# Altium schematic symbol library MonoLine.SCHLIB: 210 symbols (part 2 of 2)
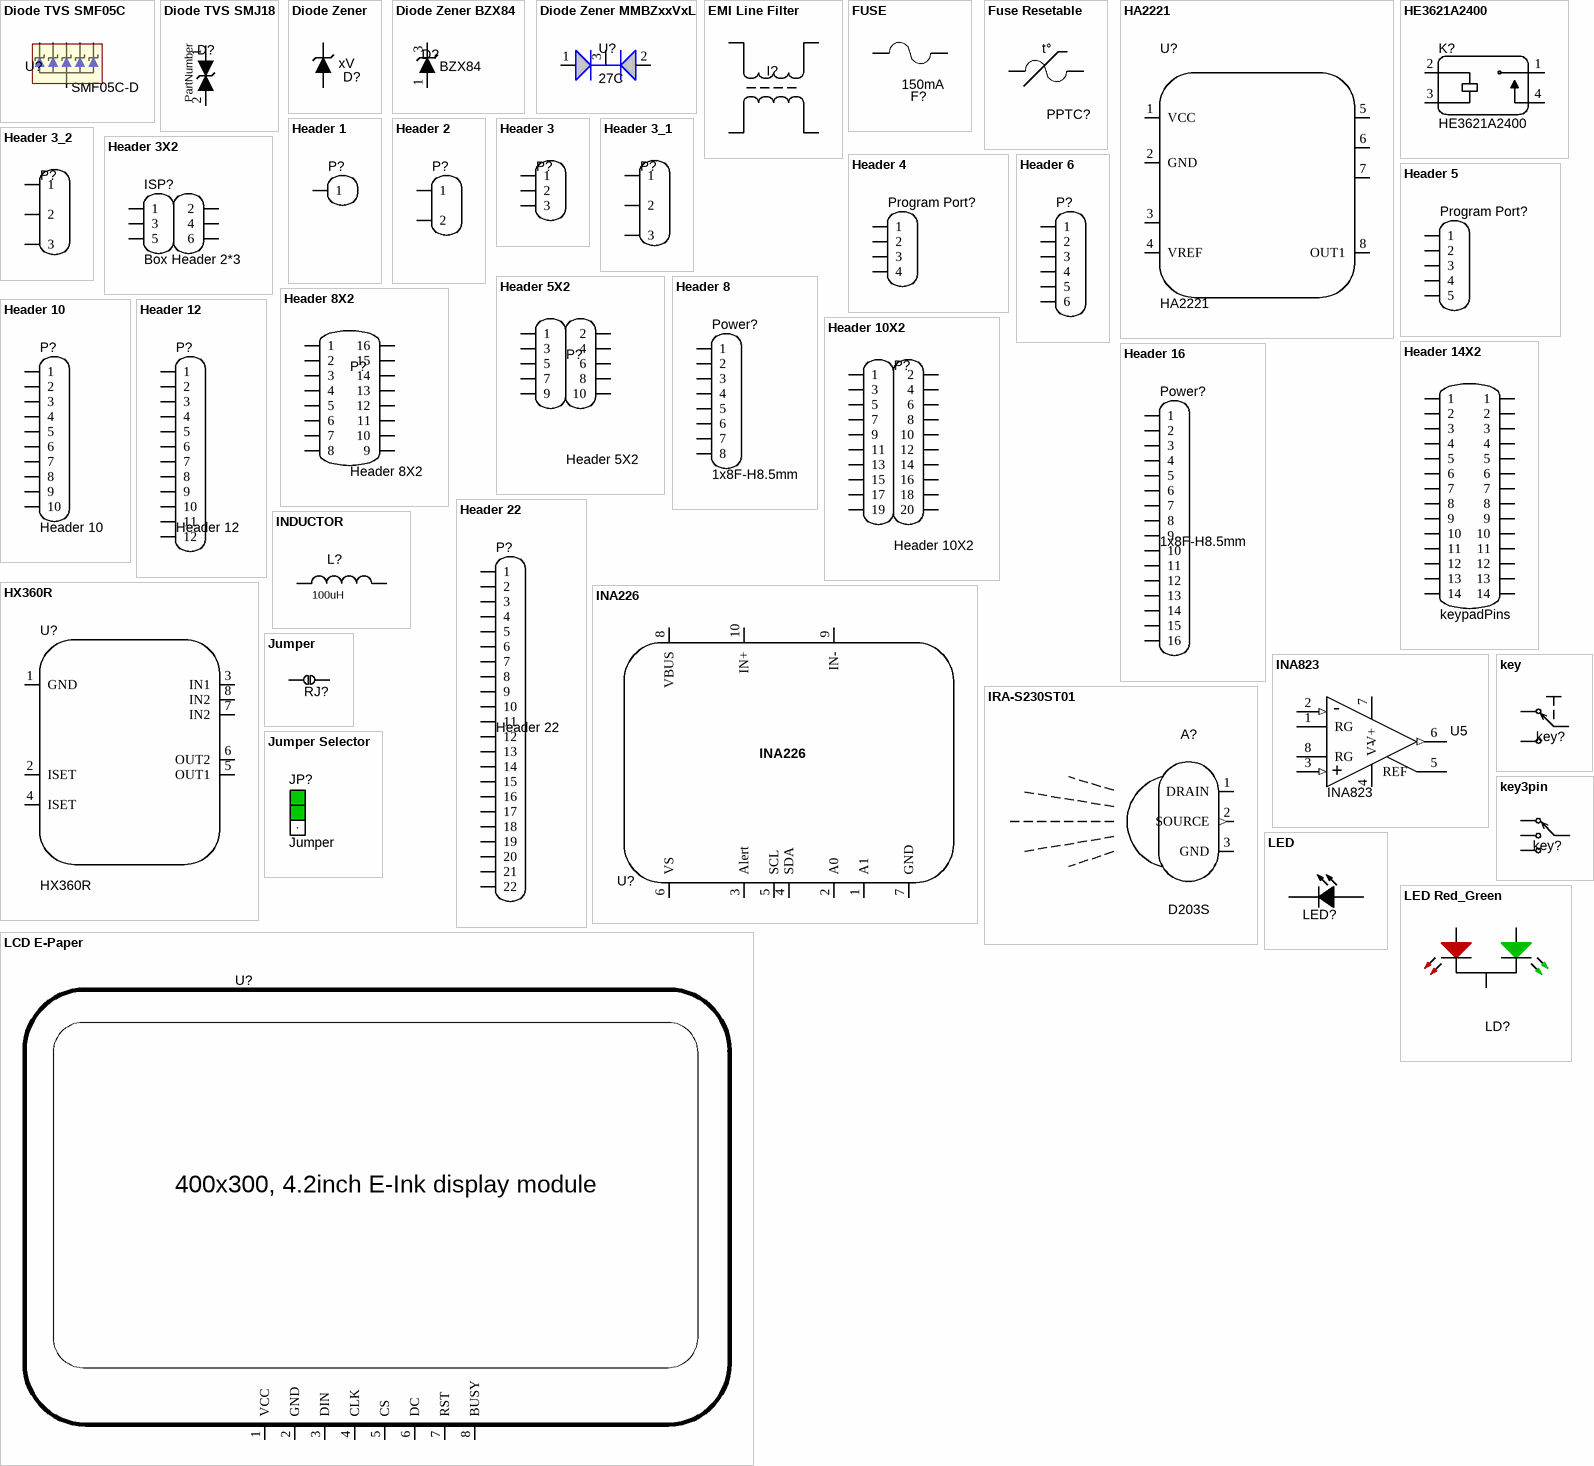
[diagram p11: symbols Diode TVS SMF05C to LED Red_Green]

## LED Red_Green
designator LD?, comment LED  (value not drawn)
Typical INFRARED GaAs LED; Published: 8-Jun-2000; LatestRevisionDate: 08-Jul-2005; LatestRevisionNote: Mech Layer 1 removed.; Publisher: Altium Limited
footprint My_DUOLED5MM
pins: AG, AR, K

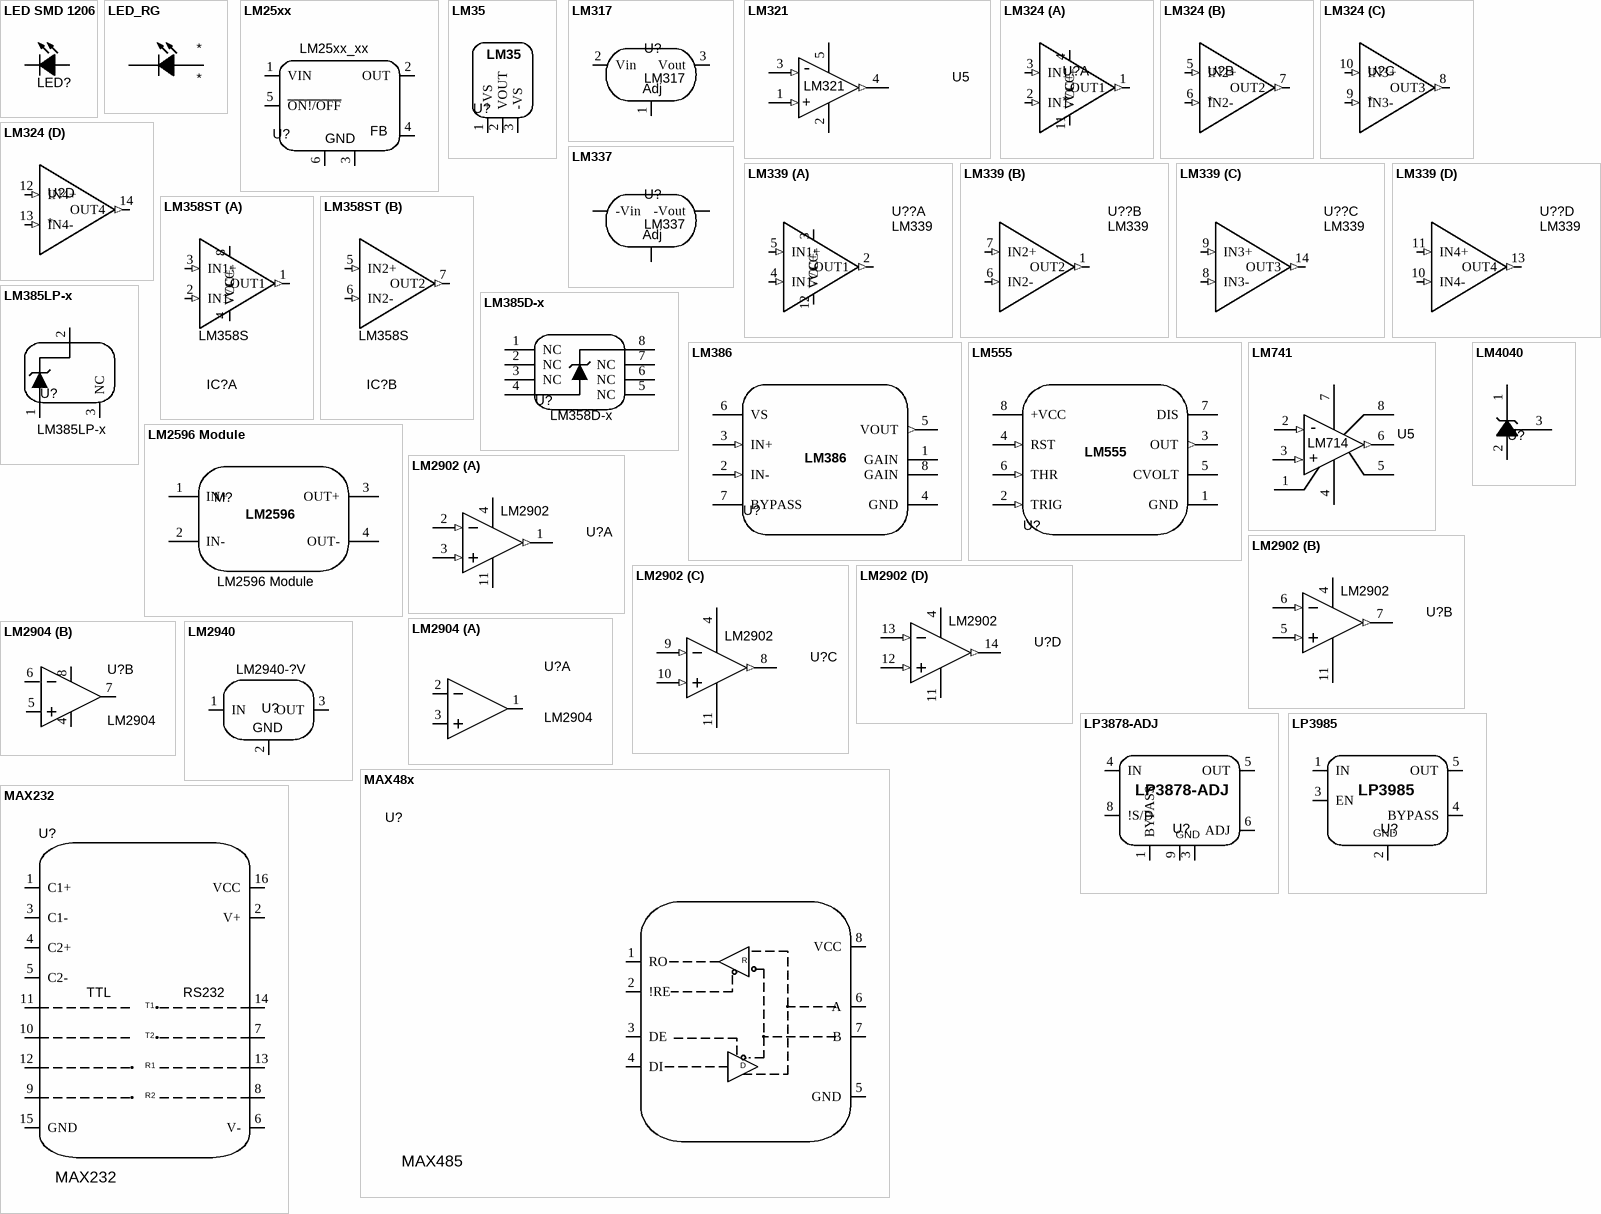
[diagram p4: symbols LED SMD 1206 to MAX232]

## LED SMD 1206
designator LED?, comment SMD 1206 LED  (value not drawn)
footprint LED 1206
pins: 1, 2

## LED_RG
designator *
pins: 1, 2

## LM25xx
designator U?, comment LM25xx_xx
Voltage Regulator; Temperature Range: -x°C to x°C; PartNumber: LM25xx_xx
footprint TO-220_5 (TO-220 STRAIGHT, T05A pitch: 1.7mm-Designer Abbas Basereh)
footprint D2Pak5 (D2PAK5-(TO263-5))
pins: 1 VIN, 2 OUT, 3 GND, 4 FB, 5 ~{ON!/OFF}, 6 Tab/GND

## LM35
designator U?  (value not drawn)
Temperature Sensor; Temperature Range: -x°C to x°C; PartNumber: LM35
footprint TO-92
footprint TO-92 BENT (DESIGNER :ABBAS BASEREH)
footprint TO-92 CF (DESIGNER :ABBAS BASEREH)
footprint TO-92 STR (DESIGNER :ABBAS BASEREH)
pins: 1 +VS, 2 VOUT, 3 -VS

## LM317
designator U?
Adjustable Output, Positive / 1.5 A / Output Adjustable between 1.2 V and 37 V
pins: 1 Adj, 2 Vin, 3 Vout

## LM321
designator U5  (value not drawn)
General-Purpose Single Operational Amplifier; Temperature Range: -x°C to x°C; PartNumber: LM321
footprint SOT23-5
pins: 1 IN- (in), 2 V- (power), 3 IN+ (in), 4 OUT (out), 5 V+ (power)
text: -; +

## LM324
designator U?
these devices consist of four independent high-gain frequency-compensated operational amplifiers that are designed sp...; MP: altium_native_batch; Package: None; Price: None; Availability: Unavailable; Value: *
footprint SOIC127P600X175-14N
part A pins: 1 OUT1 (out), 2 IN1- (in), 3 IN1+ (in), 4 VCC+ (power), 11 VCC- (power)
part B pins: 5 IN2+ (in), 6 IN2- (in), 7 OUT2 (out)
part C pins: 8 OUT3 (out), 9 IN3- (in), 10 IN3+ (in)
part D pins: 12 IN4+ (in), 13 IN4- (in), 14 OUT4 (out)

## LM337
designator U?
Adjustable Output, Negative / 1.5 A / Output Adjustable between -1.2 V and- 37 V
pins: 1 Adj, 2 -Vout, 3 -Vin

## LM339
designator U??
footprint Model Name (Footprint not found)
footprint SO14
part A pins: 2 OUT1 (out), 3 VCC+ (power), 4 IN1- (in), 5 IN1+ (in), 12 VCC- (power)
part B pins: 1 OUT2 (out), 6 IN2- (in), 7 IN2+ (in)
part C pins: 8 IN3- (in), 9 IN3+ (in), 14 OUT3 (out)
part D pins: 10 IN4- (in), 11 IN4+ (in), 13 OUT4 (out)

## LM358ST
designator IC?, comment LM358S
General Purpose Amplifier 2 Circuit 8-MiniSO; MF: STMicroelectronics; MP: LM358ST; Mouser-Purchase-URL: https://snapeda.com/shop?store=Mouser&id=225512; Arrow_Electronics-Purchase-URL: https://snapeda.com/shop?store=Arrow+Electronics&id=225512; SnapEDA_Link: https://www.snapeda.com/parts/LM358ST/STMicroelectronics/view-part/225512/?ref=snap; Package: MSOP-8 STMicroelectronics; DigiKey-Purchase-URL: https://snapeda.com/shop?store=DigiKey&id=225512; Price: None; Availability: Good; Value: *
footprint SOIC127P600X175-8N (Footprint not found)
part A pins: 1 OUT1 (out), 2 IN1- (in), 3 IN1+ (in), 4 VCC- (power), 8 VCC+ (power)
part B pins: 5 IN2+ (in), 6 IN2- (in), 7 OUT2 (out)

## LM385D-x
designator U?, comment LM358D-x
Micropower Voltage Reference; Temperature Range: -x°C to x°C; PartNumber: LM358D-x
footprint SOIC 8-3.9mm (SOIC, 8-Leads, Body 4.9x3.9mm, Pitch 1.27mm, IPC Medium Density)
pins: 1 NC, 2 NC, 3 NC, 4 A, 5 NC, 6 NC, 7 NC, 8 K

## LM385LP-x
designator U?
Micropower Voltage Reference; Temperature Range: -x°C to x°C; PartNumber: LM385LP-x
footprint TO-92
footprint TO-92 BENT (DESIGNER :ABBAS BASEREH)
footprint TO-92 CF (DESIGNER :ABBAS BASEREH)
footprint TO-92 STR (DESIGNER :ABBAS BASEREH)
footprint SOT23_N (SOT23, 3-Leads, Body 2.9x1.3mm, Pitch 0.95mm, Lead Span 2.3mm - Reverse Pinning, IPC Medium Density); pin to pad 1>2 3>1
pins: 1 A, 2 K, 3 NC

## LM386
designator U?  (value not drawn)
Low Voltage Audio Power Amplifier; Temperature Range: -x°C to x°C; PartNumber: LM386
footprint DIP 8-N (DIP; 8 Leads; Row Spacing 7.62 mm; Pitch 2.54 mm)
footprint SOIC 8-3.9mm (SOIC, 8-Leads, Body 4.9x3.9mm, Pitch 1.27mm, IPC Medium Density)
pins: 1 GAIN, 2 IN- (in), 3 IN+ (in), 4 GND (power), 5 VOUT (out), 6 VS (power), 7 BYPASS, 8 GAIN

## LM555
designator U?, comment LM555CM  (value not drawn)
Timer, 8-pin Narrow SOIC; Temperature Range: -x°C to x°C; PartNumber: LM555CM
footprint DIP 8-N (DIP; 8 Leads; Row Spacing 7.62 mm; Pitch 2.54 mm)
footprint SOIC 8-3.9mm (SOIC, 8-Leads, Body 4.9x3.9mm, Pitch 1.27mm, IPC Medium Density)
pins: 1 GND (power), 2 TRIG (in), 3 OUT (out), 4 RST (in), 5 CVOLT, 6 THR (in), 7 DIS (oc), 8 +VCC (power)

## LM741
designator U5  (value not drawn)
General-Purpose Single Operational Amplifier; Temperature Range: -x°C to x°C; PartNumber: LM741
footprint DIP 8-N (DIP; 8 Leads; Row Spacing 7.62 mm; Pitch 2.54 mm)
footprint SOIC 8-3.9mm (SOIC, 8-Leads, Body 4.9x3.9mm, Pitch 1.27mm, IPC Medium Density)
pins: 1 OS NULL, 2 IN+ (in), 3 IN- (in), 4 V- (power), 5 OS NULL, 6 OUT (out), 7 V+ (power), 8 NC
text: -; LM714; +

## LM2596 Module
designator M?  =PartNumber: LM2596 Module
footprint LM2596 DC TO DC Module SMD
pins: 1 IN+, 2 IN-, 3 OUT+, 4 OUT-
text: LM2596

## LM2902
designator U?
Quadruple Operational Amplifiers; Temperature Range: -x°C to x°C; PartNumber: LM2902
footprint DIP 14-N (DIP; 14 Leads; Row Spacing 7.62 mm; Pitch 2.54 mm)
footprint SOIC 14-3.9mm (SOIC, 14-Leads, Body 8.7x3.9mm, Pitch 1.27mm, IPC Medium Density)
part A pins: 1 OUT (out), 2 IN+ (in), 3 IN- (in), 4 V+ (power), 11 V- (power)
part B pins: 4 V+ (power), 5 IN- (in), 6 IN+ (in), 7 OUT (out), 11 V- (power)
part C pins: 4 V+ (power), 8 OUT (out), 9 IN+ (in), 10 IN- (in), 11 V- (power)
part D pins: 4 V+ (power), 11 V- (power), 12 IN- (in), 13 IN+ (in), 14 OUT (out)

## LM2904
designator U?
Low-power dual operational amplifier; SMD Code: LM2904DT; Specification: LM2904 Low-power dual operational amplifier; Warehouse Number: 11000640; Temperature Range: -40°C to 125°C; Package: SOIC 8-3.9mm; PartNumber: LM2904
footprint DIP 8-N (DIP; 8 Leads; Row Spacing 7.62 mm; Pitch 2.54 mm)
footprint SOIC 8-3.9mm (SOIC, 8-Leads, Body 4.9x3.9mm, Pitch 1.27mm, IPC Medium Density)
part A pins: 1 OUT, 2 IN+, 3 IN-
part B pins: 4 V- (power), 5 IN-, 6 IN+, 7 OUT, 8 V+ (power)

## LM2940
designator U?, comment LM2940-?V
The LM2940-N and LM2940C positive voltage The LM2940-N and LM2940C positive voltage The LM2940-N and LM2940C positive voltage maximum of 1 V over the entire temperature range.; Temperature Range: -x°C to x°C; PartNumber: LM2940-?V
footprint SOT223_4 (SOT223, 4-Leads, Body 6.5x3.5mm, Pitch 2.30mm-Designer Abbas Basereh)
pins: 1 IN, 2 GND, 3 OUT

## LM4040
designator U?
Fixed Output Voltages of 2.048 V, 2.5 V, 3 V,4.096 V, 5 V, 8.192 V, and 10 V; Temperature Range: -x°C to x°C
footprint SOT23_N (SOT23, 3-Leads, Body 2.9x1.3mm, Pitch 0.95mm, Lead Span 2.3mm - Reverse Pinning, IPC Medium Density)
pins: 1 K, 2 A, 3 A

## LP3878-ADJ
designator U?
LP3878-ADJ Micropower 800-mA Low-Noise "Ceramic Stable" Adjustable Voltage / Regulator for 1-V to 5-V Applications
footprint SO_8T (SOP-8, 5x3.9mm body 1.27mm pitch, DDA, SO PowerPAD)
pins: 1 BYPASS, 3 GND, 4 IN, 5 OUT, 6 ADJ, 8 !S/D, 9 TherminalPAD-GND

## LP3985
designator U?
LP3985 Micropower, 150-mA Low-Noise Ultra-Low-Dropout CMOS Voltage Regulator
footprint SOT23-5
pins: 1 IN, 3 EN, 4 BYPASS, 5 OUT,  2 GND

## MAX48x
designator U?, comment MAX485
RS-485/RS-422 Transceivers; ComponentAuthor: M khosravi; ComponentLink1Description: Datasheet; ComponentLink1URL: http://pdfserv.maxim-ic.com/en/ds/MAX220-MAX249.pdf
footprint DIP16
footprint SO16 (SOIC, 16-Leads, Body 9.9x3.9mm, Pitch 1.27mm, IPC Medium Density)
footprint NSO16_L (SOIC, 16-Leads, Body 9.9x3.9mm, Pitch 1.27mm, IPC High Density)
footprint NSO16_M (SOIC, 16-Leads, Body 9.9x3.9mm, Pitch 1.27mm, IPC Low Density)
footprint NSO16_N (SOIC, 16-Leads, Body 9.9x3.9mm, Pitch 1.27mm, IPC Medium Density)
pins: 1 RO, 2 !RE, 3 DE, 4 DI, 5 GND (power), 6 A, 7 B, 8 VCC (power)
text: R; D

## MAX232
designator U?
+5V Powered, Multi-Channel RS-232 Driver/Receiver; ComponentAuthor: M khosravi; ComponentLink1Description: Datasheet; ComponentLink1URL: http://pdfserv.maxim-ic.com/en/ds/MAX220-MAX249.pdf
footprint DIP16
footprint SO16 (SOIC, 16-Leads, Body 9.9x3.9mm, Pitch 1.27mm, IPC Medium Density)
footprint NSO16_L (SOIC, 16-Leads, Body 9.9x3.9mm, Pitch 1.27mm, IPC High Density)
footprint NSO16_M (SOIC, 16-Leads, Body 9.9x3.9mm, Pitch 1.27mm, IPC Low Density)
footprint NSO16_N (SOIC, 16-Leads, Body 9.9x3.9mm, Pitch 1.27mm, IPC Medium Density)
pins: 1 C1+, 2 V+, 3 C1-, 4 C2+, 5 C2-, 6 V-, 7 T2OUT, 8 R2IN, 9 R2OUT, 10 T2IN, 11 T1IN, 12 R1OUT, 13 R1IN, 14 T1OUT, 15 GND (power), 16 VCC (power)
text: TTL; RS232; T1; T2; R1; R2

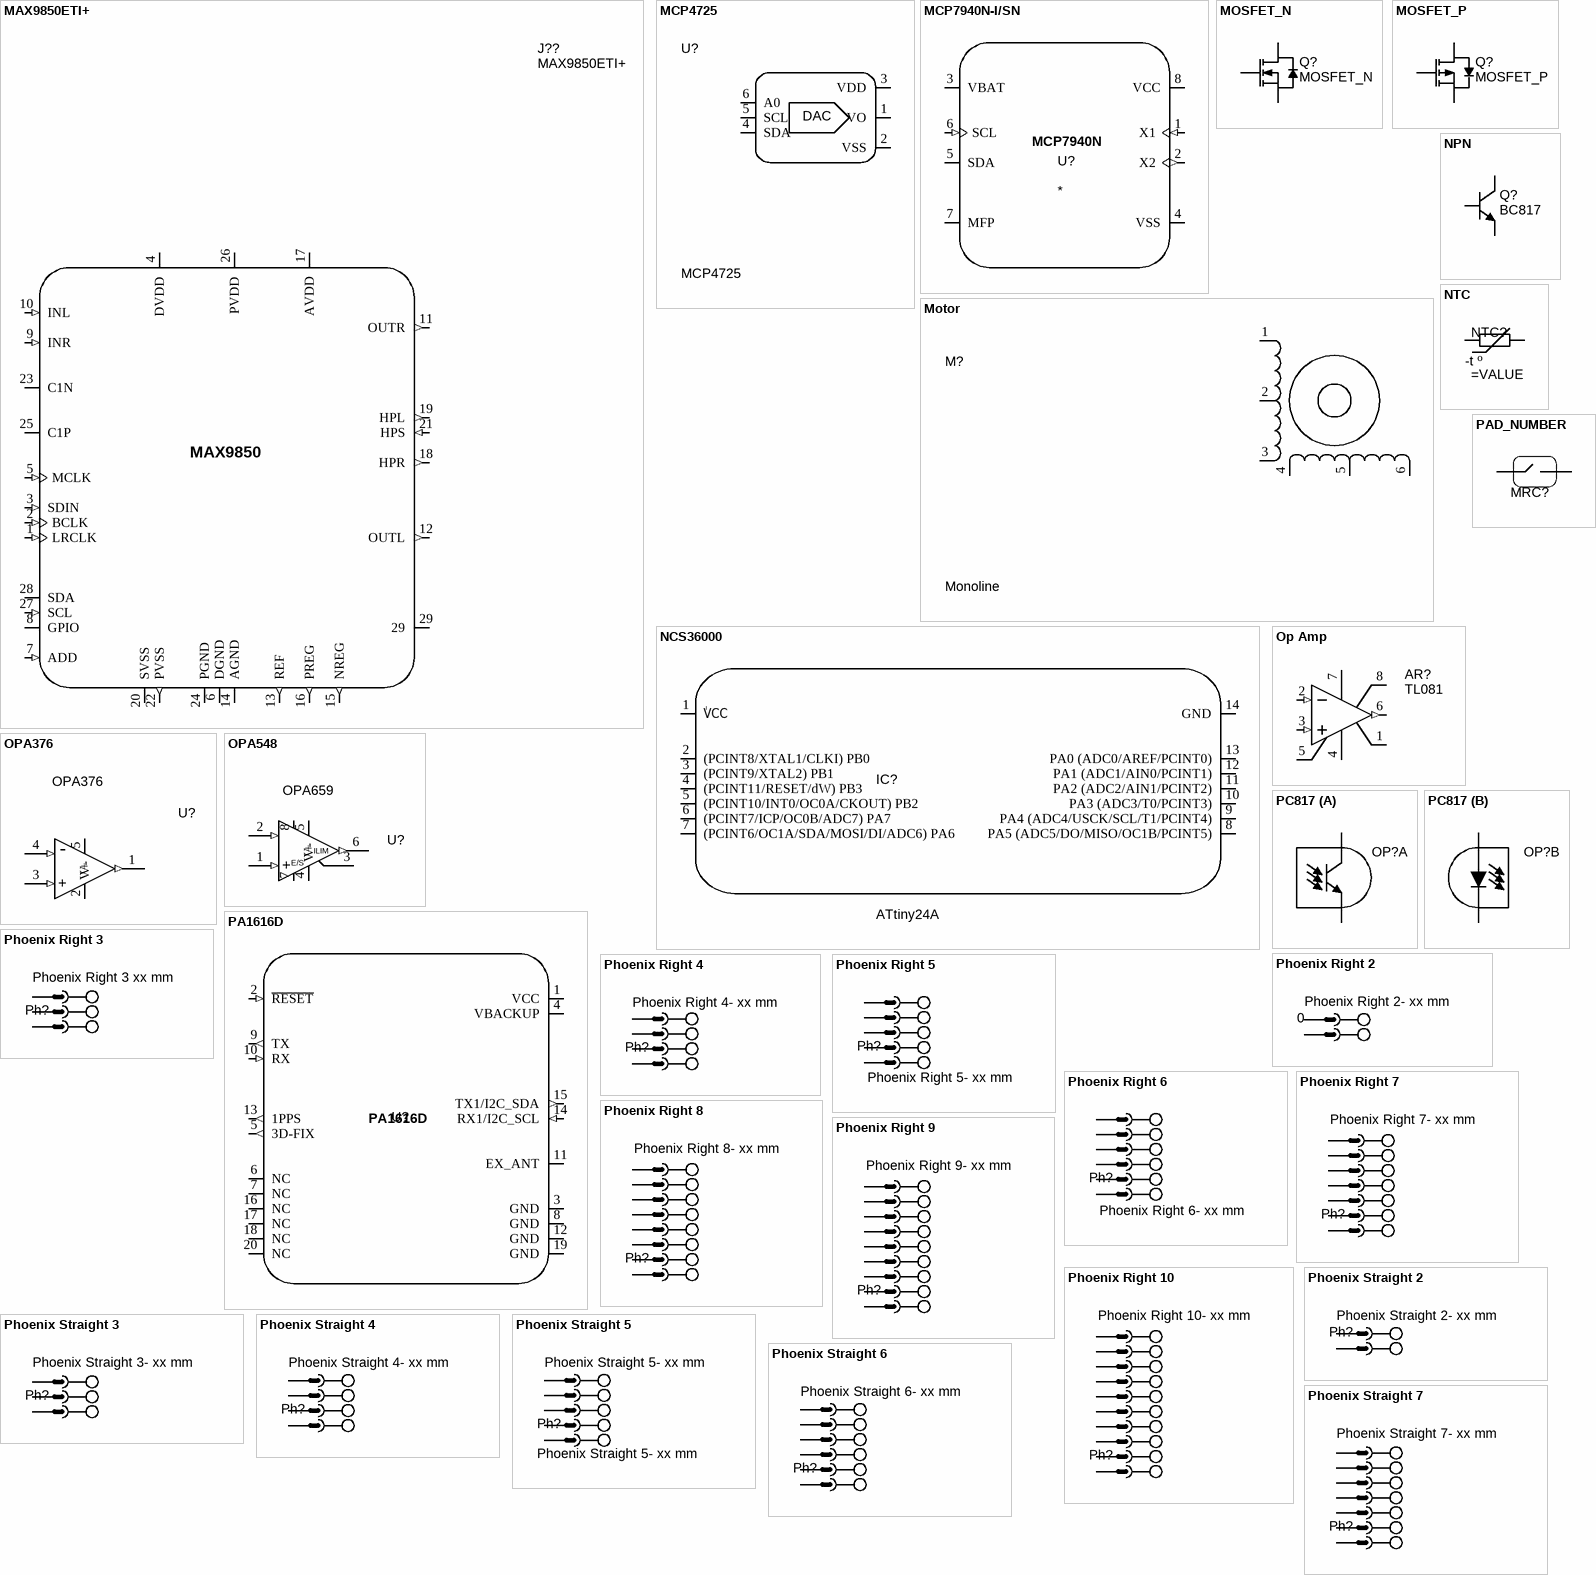
[diagram p5: symbols MAX9850ETI+ to Phoenix Straight 7]

## MAX9850ETI+
designator J??
Stereo Audio DAC with DirectDriveÂ® Headphone Amplifier; MF: Analog Devices; MP: MAX9850ETI+T; SnapEDA_Link: https://www.snapeda.com/parts/MAX9850ETI+T/Analog+Devices/view-part/?ref=snap; Package: TQFN-28 Maxim; Value: *; Check_prices: https://www.snapeda.com/parts/MAX9850ETI+T/Analog+Devices/view-part/?ref=eda
footprint QFN50P500X500X80-29N
pins: 1 LRCLK (in), 2 BCLK (in), 3 SDIN (in), 4 DVDD (power), 5 MCLK (in), 6 DGND (power), 7 ADD (in), 8 GPIO (io), 9 INR (in), 10 INL (in), 11 OUTR (out), 12 OUTL (out), 13 REF (out), 14 AGND (power), 15 NREG (out), 16 PREG (out), 17 AVDD (power), 18 HPR (out), 19 HPL (out), 20 SVSS (power), 21 HPS (in), 22 PVSS (out), 23 C1N (io), 24 PGND (power), 25 C1P (io), 26 PVDD (power), 27 SCL (in), 28 SDA (io), 29 (io)
text: MAX9850

## MCP4725
designator U?
12-Bit Digital-to-Analog Converter with EEPROM Memory; PartNumber: MCP4725
footprint SOT23_6 (SOT-23-6, DDC, DBV, MICRO6, SOT-26, SOT457, SuperSOT6, TSOP-6, HMC313, TSOT, 1.5x3mm, Pitch 0.65mm, CA531, MO-178AB, MO-193AA)
pins: 1 VO, 2 VSS, 3 VDD, 4 SDA, 5 SCL, 6 A0
text: DAC

## MCP7940N-I/SN
designator U?
Microchip MCP7940N-I/SN, Real Time Clock, 64B RAM Serial-I2C, 8-Pin SOIC | Microchip Technology Inc. MCP7940N-I/SN; SnapEDA_Link: https://www.snapeda.com/parts/MCP7940N-I/SN/Microchip/view-part/?ref=snap; Package: SO-8 Microchip; Value: *; MF: Microchip; MP: MCP7940N-I/SN; Check_prices: https://www.snapeda.com/parts/MCP7940N-I/SN/Microchip/view-part/?ref=eda
footprint SOIC127P600X175-8N
pins: 1 X1 (in), 2 X2 (out), 3 VBAT (power), 4 VSS (power), 5 SDA (io), 6 SCL (in), 7 MFP (io), 8 VCC (power)
text: MCP7940N

## MOSFET_N
designator Q?
AO3400
footprint Model Name (Footprint not found)
pins: 1 G, 2 S, 3 D

## MOSFET_P
designator Q?
AO3401
pins: 1 G, 2 S, 3 D

## Motor
designator M?, comment Monoline
MP: ADS1115IDGST; Designer: M Khosravi; Value: *; Price: None; Package: None; Availability: Unavailable
footprint ATXPWR_6 (Connector; ATX Power; 6 Position, TE 4-1775099-1)
pins: 1, 2, 3, 4, 5, 6

## NCS36000
designator IC?, comment ATtiny24A
IC PIR DETECTOR CTLR 14SOIC; MF: ON Semiconductor; MP: ATtiny24A; Package: SOIC-14 ON Semiconductor; Price: None; Availability: Bad; SnapEDA_Link: https://www.snapeda.com/parts/NCS36000/ON%20Semiconductor/view-part/3219036/?ref=snap; Value: *; Check_prices: a
footprint SO14
pins: 1 ٰVCC (power), 2 (PCINT8/XTAL1/CLKI) PB0 (io), 3 (PCINT9/XTAL2) PB1 (io), 4 (PCINT11/RESET/dW) PB3 (io), 5 (PCINT10/INT0/OC0A/CKOUT) PB2 (io), 6 (PCINT7/ICP/OC0B/ADC7) PA7 (io), 7 (PCINT6/OC1A/SDA/MOSI/DI/ADC6) PA6 (io), 8 PA5 (ADC5/DO/MISO/OC1B/PCINT5) (io), 9 PA4 (ADC4/USCK/SCL/T1/PCINT4) (io), 10 PA3 (ADC3/T0/PCINT3) (io), 11 PA2 (ADC2/AIN1/PCINT2) (io), 12 PA1 (ADC1/AIN0/PCINT1) (io), 13 PA0 (ADC0/AREF/PCINT0) (io), 14 GND (power)

## NPN
designator Q?, comment BC817
NPN Transistor
footprint SOT23-3P96_237X112L42X44 (Footprint not found)
simulation model NPN_Mod_Gummel_Poon (NPN)
signal-integrity model NPN
pins: 1 B, 2 E, 3 C

## NTC
designator NTC?  t: -t º
NTC Thermistor
footprint 05D XXX (MOV-05DxxxK Metal Oxide Varistors (MOVs) are 5 mm-Design:Abbas Basereh)
footprint 07D XXX (MOV-07DxxxK Metal Oxide Varistors (MOVs) are 7 mm-Design:Abbas Basereh)
footprint 10D XXX (MOV-10DxxxK Metal Oxide Varistors (MOVs) are 10 mm-Design:Abbas Basereh)
footprint 14D XXX (MOV-14DxxxK Metal Oxide Varistors (MOVs) are 14 mm-Design:Abbas Basereh)
footprint 20D XXX (MOV-20DxxxK Metal Oxide Varistors (MOVs) are 20 mm-Design:Abbas Basereh)
footprint 23D XXX (MOV-23DxxxK Metal Oxide Varistors (MOVs) are 23 mm-Design:Abbas Basereh)
pins: 1, 2

## Op Amp
designator AR?, comment TL081
FET Operational Amplifier; Published: 8-Jun-2000; LatestRevisionDate: 17-Jul-2002; LatestRevisionNote: Re-released for DXP Platform.; DatasheetVersion: REV. B; PackageVersion: 1990; PackageReference: H-08A; Publisher: Altium Limited; PackageDescription: Can; 8 Leads; Pin Circle Dia. 5.08 mm; Lead Dia. 0.53 mm (max); ComponentLink1Description: Manufacturer Link; ComponentLink1URL: http://www.analog.com/
footprint H-08A (Can; 8 Leads; Pin Circle Dia. 5.08 mm; Lead Dia. 0.53 mm (max))
simulation model AD645A (Spice Subcircuit)
pins: 1 OS NUL, 2 IN- (in), 3 IN+ (in), 4 V- (power), 5 OS NUL, 6 OUT (out), 7 V+ (power), 8 TAB

## OPA376
designator U?
Rail-to-Rail Input/Output, 10 MHz Op Amps; Temperature Range: -x°C to x°C; PartNumber: OPA376
footprint SOT23-5
pins: 1 VO (out), 2 V- (power), 3 VIN+ (in), 4 VIN- (in), 5 V+ (power)
text: -; +

## OPA548
designator U?  PartNumber: OPA659  (hidden comment: OPA548)
High-Voltage, High-Current Operational Amplifier / High-Output Current: 3-A Continuous ,5-A Peak / Wide Supply Range:Single / Supply 8 V to 60 V / Dual Supply,±4 V to ±30 V
footprint D2PAK7
pins: 1 VIN+ (in), 2 VIN- (in), 3 ILIM (power), 4 V- (power), 5 V+ (power), 6 VO (out), 7 E/S (power), 8 Tab (power)
text: -; +

## PA1616D
designator U?  (value not drawn)
CD-PA1616DGNSS patch antenna module; MF: CD Top; SnapEDA_Link: https://www.snapeda.com/parts/CD-PA1616D/CD+technology/view-part/?ref=snap; Package: Package; Value: *; MP: CD-PA1616D; Check_prices: https://www.snapeda.com/parts/CD-PA1616D/CD+technology/view-part/?ref=eda
footprint XCVR_CD-PA1616D
pins: 1 VCC (power), 2 ~{RESET} (in), 3 GND (power), 4 VBACKUP (power), 5 3D-FIX (out), 6 NC, 7 NC, 8 GND (power), 9 TX (out), 10 RX (in), 11 EX_ANT (io), 12 GND (power), 13 1PPS (out), 14 RX1/I2C_SCL (in), 15 TX1/I2C_SDA (out), 16 NC, 17 NC, 18 NC, 19 GND (power), 20 NC

## PAD_NUMBER
designator MRC?  (value not drawn)  (net tie, no BOM)
footprint PAD_NUMBER
pins: 1, 2

## PC817
designator OP?  (value not drawn)
Optocoupler,  DIP 4pin General Purpose  Photocoupler; ComponentLink2Description: DIP 4pin General Purpose
footprint SMT Gullwing Lead-Form (SOP, 4-Leads, Body 4/65x6/75mm, Pitch 2/54mm, IPC Medium Density designer:abbas basereh)
part A pins: 3 E, 4 C
part B pins: 1 A, 2 K

## Phoenix Right 2
designator 0, comment Phoenix Right 2- xx mm
320 V_12 A; VALUE: Phoenix Right 2- xx mm
footprint MSTB 2,5/2-G-5,08 (Header, Nominal current: 12 A Rated voltage (III/2): 320 V Number of positions: 2 Pitch: 5.08 mm Color: green Contact surface: Tin Assembly: Soldering DESIGNER:ABBAS BASEREH)
footprint MC 1,5/ 2-G-3,81
pins: 1, 2

## Phoenix Right 3
designator Ph?, comment Phoenix Right 3 xx mm
320 V_12 A; VALUE: Phoenix Right 3 xx mm
footprint MSTB 2,5/3-G-5,08 (Header, Nominal current: 12 A Rated voltage (III/2): 320 V Number of positions: 3 Pitch: 5.08 mm Color: green Contact surface: Tin Assembly: Soldering  DESIGNER:ABBAS BASEREH)
footprint MC 1,5/ 3-G-3,81
pins: 1, 2, 3

## Phoenix Right 4
designator Ph?, comment Phoenix Right 4- xx mm
320 V_12 A; VALUE: Phoenix Right 4- xx mm
footprint MSTB 2,5/4-G-5,08 (Header, Nominal current: 12 A Rated voltage (III/2): 320 V Number of positions: 4 Pitch: 5,08 mm Color: green Contact surface: Tin Assembly: Soldering  DESIGNER ABBAS BASEREH)
footprint MC 1,5/ 4-G-3,81
pins: 1, 2, 3, 4

## Phoenix Right 5
designator Ph?, comment Phoenix Right 5- xx mm
320 V_12 A; VALUE: Phoenix Right 5- xx mm
footprint MC 1,5/ 5-G-3,81
footprint MSTB 2,5/5-G-5,08 (Header, Nominal current: 12 A Rated voltage (III/2): 320 V Number of positions: 5 Pitch: 5,08 mm Color: green Contact surface: Tin Assembly: Soldering  DESIGNER ABBAS BASEREH)
pins: 1, 2, 3, 4, 5

## Phoenix Right 6
designator Ph?, comment Phoenix Right 6- xx mm
320 V_12 A; VALUE: Phoenix Right 6- xx mm
footprint MC 1,5/ 6-G-3,81
footprint MSTB 2,5/6-G-5,08 (Header, Nominal current: 12 A Rated voltage (III/2): 320 V Number of positions: 6 Pitch: 5,08 mm Color: green Contact surface: Tin Assembly: Soldering  DESIGNER ABBAS BASEREH)
pins: 1, 2, 3, 4, 5, 6

## Phoenix Right 7
designator Ph?, comment Phoenix Right 7- xx mm
320 V_12 A; Value: Phoenix Right 7- xx mm
footprint MC 1,5/ 7-G-3,81
pins: 1, 2, 3, 4, 5, 6, 7

## Phoenix Right 8
designator Ph?, comment Phoenix Right 8- xx mm
320 V_12 A; Value: Phoenix Right 8- xx mm
footprint MC 1,5/ 8-G-3,81
pins: 1, 2, 3, 4, 5, 6, 7, 8

## Phoenix Right 9
designator Ph?, comment Phoenix Right 9- xx mm
320 V_12 A; Value: Phoenix Right 9- xx mm
footprint MSTB 2,5/9-G-5,08 (Header, Nominal current: 12 A Rated voltage (III/2): 320 V Number of positions: 6 Pitch: 5,08 mm Color: green Contact surface: Tin Assembly: Soldering  DESIGNER ABBAS BASEREH)
footprint MC 1,5/ 9-G-3,81
pins: 1, 2, 3, 4, 5, 6, 7, 8, 9

## Phoenix Right 10
designator Ph?, comment Phoenix Right 10- xx mm
320 V_12 A; Value: Phoenix Right 10- xx mm
footprint MC 1,5/ 10-G-3,81
pins: 1, 2, 3, 4, 5, 6, 7, 8, 9, 10

## Phoenix Straight 2
designator Ph?, comment Phoenix Straight 2- xx mm
320 V_12 A; VALUE: Phoenix Straight 2- xx mm
footprint MSTBV 2,5/2-G-5 (Header, Nominal current: 12 A Rated voltage (III/2): 320 V Number of positions: 2 Pitch: 5mm Color: green Contact surface: Tin Assembly: Soldering DESIGNER:ABBAS BASEREH)
footprint MCV 1,5/ 2-G-3,81
pins: 1, 2

## Phoenix Straight 3
designator Ph?, comment Phoenix Straight 3- xx mm
320 V_12 A; VALUE: Phoenix Straight 3- xx mm
footprint MSTBV 2,5/3-G-5 (Header, Nominal current: 12 A Rated voltage (III/2): 320 V Number of positions: 3 Pitch: 5mm Color: green Contact surface: Tin Assembly: Soldering  DESIGNER:ABBAS BASEREH)
footprint MCV 1,5/ 3-G-3,81
pins: 1, 2, 3

## Phoenix Straight 4
designator Ph?, comment Phoenix Straight 4- xx mm
320 V_12 A; VALUE: Phoenix Straight 4- xx mm
footprint MSTBV 2,5/4-G-5 (Header, Nominal current: 12 A Rated voltage (III/2): 320 V Number of positions: 4 Pitch: 5mm Color: green Contact surface: Tin Assembly: Soldering  DESIGNER ABBAS BASEREH)
footprint MCV 1,5/ 4-G-3,81
pins: 1, 2, 3, 4

## Phoenix Straight 5
designator Ph?, comment Phoenix Straight 5- xx mm
320 V_12 A; VALUE: Phoenix Straight 5- xx mm
footprint MSTBV 2,5/5-G-5 (Header, Nominal current: 12 A Rated voltage (III/2): 320 V Number of positions: 5 Pitch: 5mm Color: green Contact surface: Tin Assembly: Soldering  DESIGNER ABBAS BASEREH)
footprint MCV 1,5/ 5-G-3,81
pins: 1, 2, 3, 4, 5

## Phoenix Straight 6
designator Ph?, comment Phoenix Straight 6- xx mm
320 V_12 A; VALUE: Phoenix Straight 6- xx mm
footprint MSTBV 2,5/6-G-5 (Header, Nominal current: 12 A Rated voltage (III/2): 320 V Number of positions: 6 Pitch: 5mm Color: green Contact surface: Tin Assembly: Soldering  DESIGNER ABBAS BASEREH)
footprint MCV 1,5/ 6-G-3,81
pins: 1, 2, 3, 4, 5, 6

## Phoenix Straight 7
designator Ph?, comment Phoenix Straight 7- xx mm
320 V_12 A; Value: Phoenix Straight 7- xx mm
footprint MCV 1,5/ 7-G-3,81
pins: 1, 2, 3, 4, 5, 6, 7

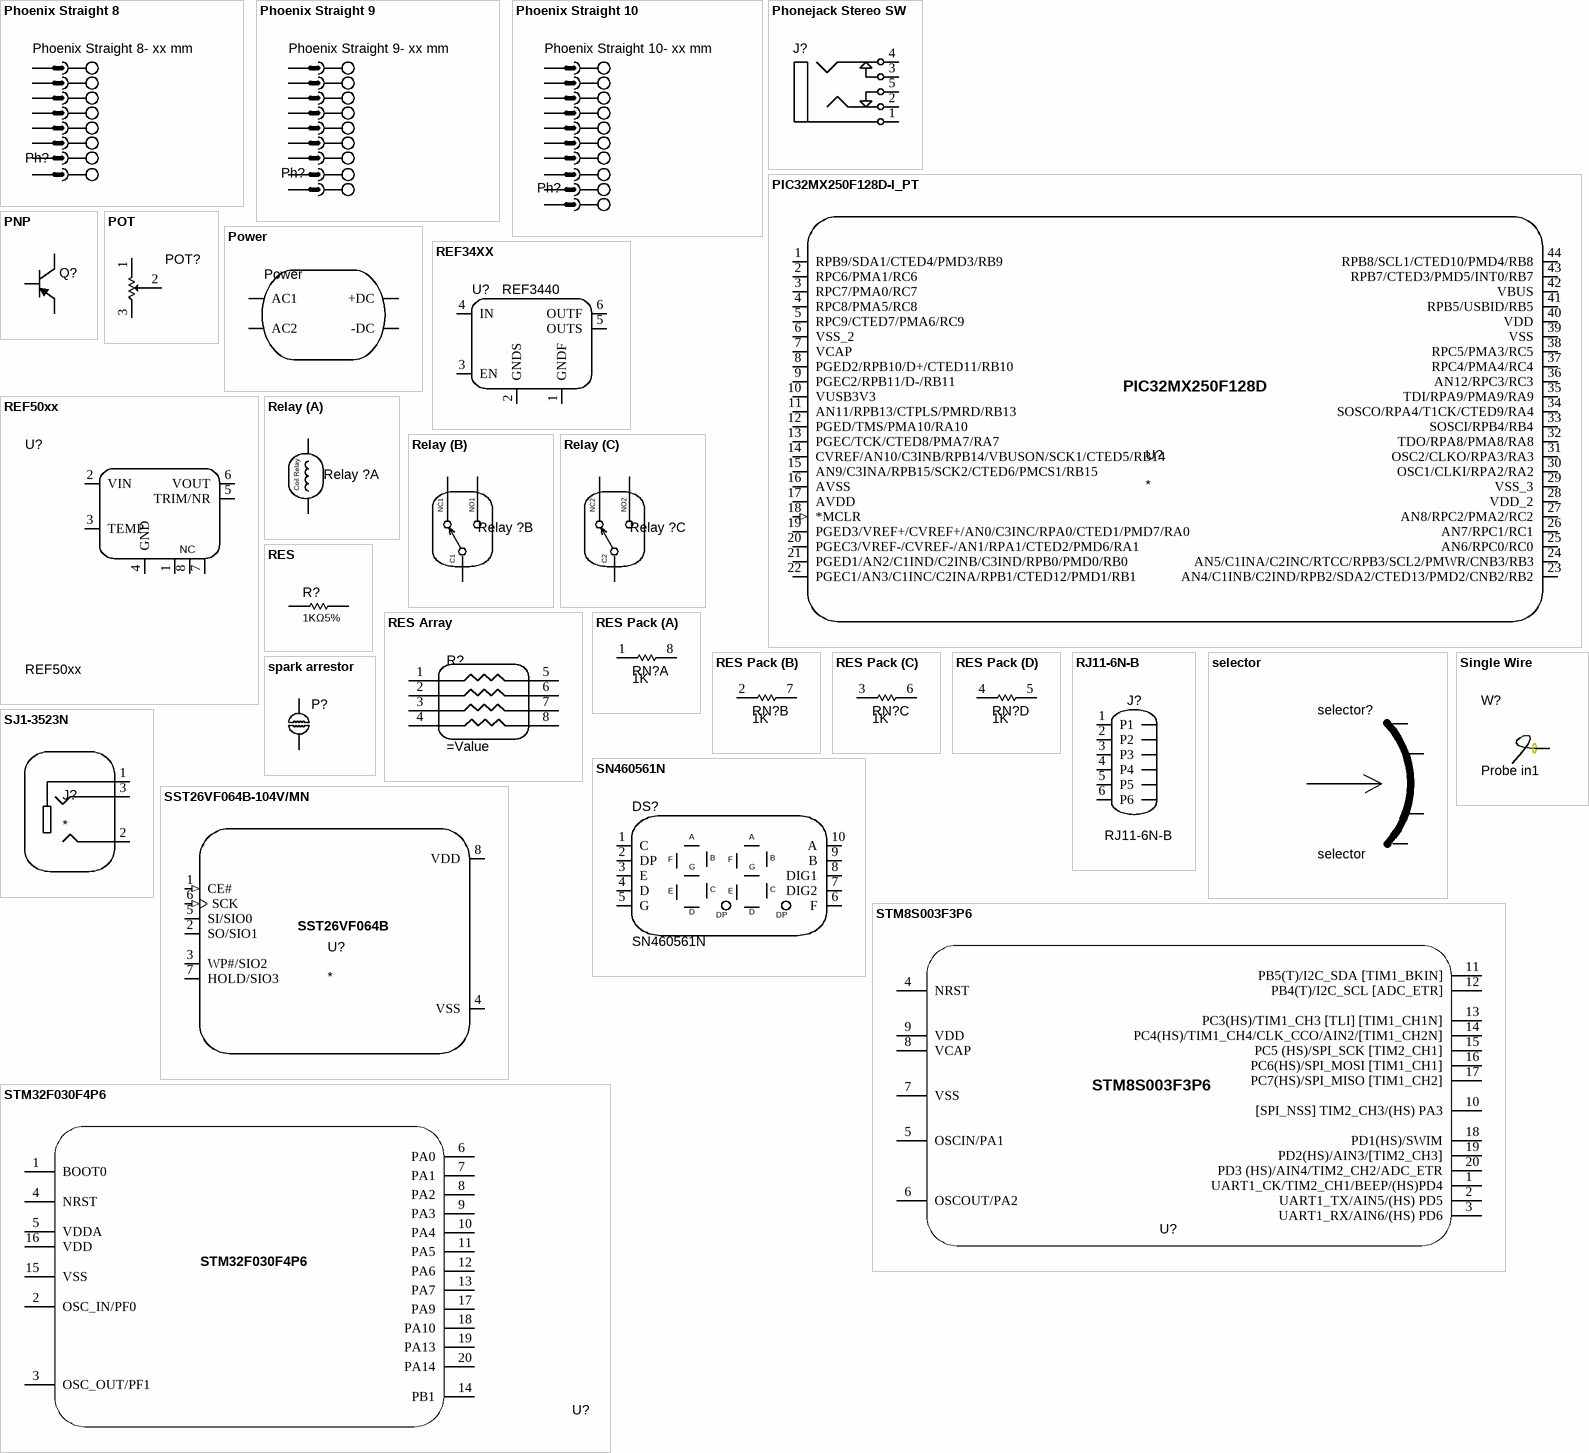
[diagram p6: symbols Phoenix Straight 8 to STM32F030F4P6]

## Phoenix Straight 8
designator Ph?, comment Phoenix Straight 8- xx mm
320 V_12 A; Value: Phoenix Straight 8- xx mm
footprint MCV 1,5/ 8-G-3,81
pins: 1, 2, 3, 4, 5, 6, 7, 8

## Phoenix Straight 9
designator Ph?, comment Phoenix Straight 9- xx mm
320 V_12 A; Value: Phoenix Straight 9- xx mm
footprint MSTBV 2,5/9-G-5 (Header, Nominal current: 12 A Rated voltage (III/2): 320 V Number of positions: 6 Pitch: 5mm Color: green Contact surface: Tin Assembly: Soldering  DESIGNER ABBAS BASEREH)
footprint MCV 1,5/ 9-G-3,81
pins: 1, 2, 3, 4, 5, 6, 7, 8, 9

## Phoenix Straight 10
designator Ph?, comment Phoenix Straight 10- xx mm
320 V_12 A; Value: Phoenix Straight 10- xx mm
footprint MCV 1,5/ 10-G-3,81
pins: 1, 2, 3, 4, 5, 6, 7, 8, 9, 10

## Phonejack Stereo SW
designator J?
3-Conductor Jack with 2 break contacts (normals) and 2 auxiliary make contacts; ComponentLink1Description: Manufacturer Link; ComponentLink1URL: http://domino.kycon.com/internet/Products.html
pins: 1, 1A, 1B, 2, 2A, 2B, 3, 3A, 3B, 4, 4A, 4B, 5, 5A, 5B

## PIC32MX250F128D-I_PT
designator U?
PIC32MX250F128D-I/PT,32bit PIC Microcontroller,40MHz,131kb Flash,44-Pin TQFP | Microchip Technology Inc. PIC32MX250F128D-I/PT; SnapEDA_Link: https://www.snapeda.com/parts/PIC32MX250F128D-I/PT/Microchip/view-part/?ref=snap; Package: TQFP-44 Microchip; Value: *; MF: Microchip; MP: PIC32MX250F128D-I/PT; Check_prices: https://www.snapeda.com/parts/PIC32MX250F128D-I/PT/Microchip/view-part/?ref=eda
footprint QFP44_10X10MC
pins: 1 RPB9/SDA1/CTED4/PMD3/RB9 (io), 2 RPC6/PMA1/RC6 (io), 3 RPC7/PMA0/RC7 (io), 4 RPC8/PMA5/RC8 (io), 5 RPC9/CTED7/PMA6/RC9 (io), 6 VSS_2 (power), 7 VCAP (power), 8 PGED2/RPB10/D+/CTED11/RB10 (io), 9 PGEC2/RPB11/D-/RB11 (io), 10 VUSB3V3 (io), 11 AN11/RPB13/CTPLS/PMRD/RB13 (io), 12 PGED/TMS/PMA10/RA10 (io), 13 PGEC/TCK/CTED8/PMA7/RA7 (io), 14 CVREF/AN10/C3INB/RPB14/VBUSON/SCK1/CTED5/RB14 (io), 15 AN9/C3INA/RPB15/SCK2/CTED6/PMCS1/RB15 (io), 16 AVSS (power), 17 AVDD (power), 18 *MCLR (in), 19 PGED3/VREF+/CVREF+/AN0/C3INC/RPA0/CTED1/PMD7/RA0 (io), 20 PGEC3/VREF-/CVREF-/AN1/RPA1/CTED2/PMD6/RA1 (io), 21 PGED1/AN2/C1IND/C2INB/C3IND/RPB0/PMD0/RB0 (io), 22 PGEC1/AN3/C1INC/C2INA/RPB1/CTED12/PMD1/RB1 (io), 23 AN4/C1INB/C2IND/RPB2/SDA2/CTED13/PMD2/CNB2/RB2 (io), 24 AN5/C1INA/C2INC/RTCC/RPB3/SCL2/PMWR/CNB3/RB3 (io), 25 AN6/RPC0/RC0 (io), 26 AN7/RPC1/RC1 (io), 27 AN8/RPC2/PMA2/RC2 (io), 28 VDD_2 (power), 29 VSS_3 (power), 30 OSC1/CLKI/RPA2/RA2 (io), 31 OSC2/CLKO/RPA3/RA3 (io), 32 TDO/RPA8/PMA8/RA8 (io), 33 SOSCI/RPB4/RB4 (io), 34 SOSCO/RPA4/T1CK/CTED9/RA4 (io), 35 TDI/RPA9/PMA9/RA9 (io), 36 AN12/RPC3/RC3 (io), 37 RPC4/PMA4/RC4 (io), 38 RPC5/PMA3/RC5 (io), 39 VSS (power), 40 VDD (power), 41 RPB5/USBID/RB5 (io), 42 VBUS (power), 43 RPB7/CTED3/PMD5/INT0/RB7 (io), 44 RPB8/SCL1/CTED10/PMD4/RB8 (io)
text: PIC32MX250F128D

## PNP
designator Q?
PNP  Transistor
footprint SOT23-3P96_237X112L42X44 (Footprint not found)
simulation model NPN
signal-integrity model NPN
pins: 1 B, 2 E, 3 C

## POT
designator POT?, comment 10K  (value not drawn)
Variable Resistor; Value: 10K
footprint POT 4 (Trimmer)
footprint POT 2 (Trimmer)
footprint POT (Voloume)
footprint POT MULTITURN THIN (Footprint not found)
footprint POT 3 (Volume Right)
pins: 1 CW, 2 SetPoint, 3 CCW

## Power
designator Power
footprint Power
pins: +DC, -DC, AC1, AC2

## REF34XX
designator U?, comment REF3440
REF34xx Low-Drift, Low-Power, Small-Footprint Series Voltage Reference; PartNumber: REF3440
footprint SOT23-6
pins: 1 GNDF, 2 GNDS, 3 EN, 4 IN, 5 OUTS, 6 OUTF

## REF50xx
designator U?
REF50xx Low-Noise, Very Low Drift, Precision Voltage Reference; PartNumber: REF50xx
footprint SOP-8N
footprint SO_8 (SOP-8, 5x3.9mm body 1.27mm pitch, SOT96-1, M08A, S8, SOIC8, VO8, MS-012AA(JEDEC), R-8, 8S2, VOG8)
pins: 1 DNC, 2 VIN, 3 TEMP, 4 GND, 5 TRIM/NR, 6 VOUT, 7 NC, 8 DNC

## Relay
designator Relay ?, comment Relay  24V 2A  (value not drawn)
Relay MCB-S-224-C-S - 24V coil, 2x 1A / 125VAC contacts
part A pins: coil1, coil2
part B pins: C1, NC1, NO1
part C pins: C2, NC2, NO2
part A text: Coil Relay

## RES
designator R?, comment 1KΩ5%
Tolerance: 5%; Value: 1K; Ohm: Ω
footprint RESC3413X04N (Chip Resistor, 2-Leads, Body 3/40x1/30mm, IPC Medium Density)
footprint RES1206 (Chip Resistor, 2-Leads, Body 3/20x1/60mm, IPC Medium Density DESIGNER:ABBAS BASEREH)
footprint RES0201 (Chip Resistor, 2-Leads, Body 0/60x0/30mm, IPC Medium Density DESIGNER:ABBAS BASEREH)
footprint RES0402 (Chip Resistor, 2-Leads, Body 1/00x0/50mm, IPC Medium Density DESIGNER:ABBAS BASEREH)
footprint RES0805 (Chip Resistor, 2-Leads, Body 2/00x1/25mm, IPC Medium Density DESIGNER:ABBAS BASEREH)
footprint RES1210 (Chip Resistor, 2-Leads, Body 3/20x2/50mm, IPC Medium Density DESIGNER:ABBAS BASEREH)
footprint RES2512 (Chip Resistor, 2-Leads, Body 6/40x3/20mm, IPC Medium Density DESIGNER:ABBAS BASEREH)
footprint R0603 (CHIP Resistor 1/10 WATT, 1.6x0.8mm, 0603, OPTIMIZED)
signal-integrity model Resistor (Model Description)
pins: 1, 2

## RES Array
designator R?
YC164-JR-07330RL
footprint RESCAXE80P320X160X70-8N
footprint RESCAXE80P320X160X70-8N
footprint RESCAXE80P320X160X70-8N
footprint RESCAXE80P320X160X70-8N
pins: 1, 2, 3, 4, 5, 6, 7, 8

## RES Pack
designator RN?, comment 1K
Isolated Resistor Network - Parts; Sim Note: Enter the Resistance value into parameter field.; Published: 24-Mar-1999; LatestRevisionDate: 29-May-2009; LatestRevisionNote: IPC-7351 Footprint Added.; PackageReference: SOIC16; Publisher: Altium Limited; PackageDescription: 16-Pin Small Outline Integrated Circuit 1.27 mm Pitch; Code_JEDEC: MS-012-AC; Code_IPC: SOIC127P600-16; Value: 1K
footprint SOIC16_N (SOIC, 16-Leads, Body 9.9x3.9mm, Pitch 1.27mm, IPC Medium Density)
footprint SOIC16_L (SOIC, 16-Leads, Body 9.9x3.9mm, Pitch 1.27mm, IPC High Density)
footprint SOIC16_M (SOIC, 16-Leads, Body 9.9x3.9mm, Pitch 1.27mm, IPC Low Density)
simulation model RESISTOR (Resistor)
signal-integrity model Res Pack
part A pins: 1, 8
part B pins: 2, 7
part C pins: 3, 6
part D pins: 4, 5

## RJ11-6N-B
designator J?  (graphical)
6 Position 1 Port Right Angle RJ11 Low Profile Filtered EMI/RFI Modular Jack; MF: TE Connectivity; MP: RJ11-6N-B; Availability: Unavailable; SnapEDA_Link: https://www.snapeda.com/parts/RJ11-6N-B/TE%20Connectivity%20Corcom%20Filters/view-part/2771781/?ref=snap; Package: None; Price: None; TE_purchase_URL: https://www.te.com/usa-en/product-6609212-4.html?te_bu=Cor&te_type=disp&te_campaign=seda_glo_cor-seda-global-disp-prtnr-fy19-seda-model-bom-cta_sma-317_1&elqCampaignId=32493; Value: *
footprint TE_RJ11-6N-B
footprint TE_RJ11-6N-B
pins: 1 P1, 2 P2, 3 P3, 4 P4, 5 P5, 6 P6

## selector
designator selector?
footprint selector
pins: 1, 2, 3, 4, 5

## Single Wire
designator W?  (value not drawn)
A Customize Component For Single Wire Connection; Designer: M Khosravi; Company: IPA Co; Adding Date: 1388/04/05; Color: Blue; Wire Name: *; Probe in1: Probe in1
footprint wire 1.5 mm
footprint wire 2.0 mm
pins: 1

## SJ1-3523N
designator J?
3.5 mm, Stereo, Right Angle, Through Hole, 3 Conductors, 0 Internal Switches, Audio Jack Connector; MF: Same Sky; MP: SJ1-3523N; SnapEDA_Link: https://www.snapeda.com/parts/SJ1-3523N/Same+Sky/view-part/?ref=snap; Package: None; Value: *; Check_prices: https://www.snapeda.com/parts/SJ1-3523N/Same+Sky/view-part/?ref=eda
footprint CUI_SJ1-3523N
pins: 1, 2, 3

## SN460561N
designator DS?
SN460561N_CA / 0.56Inch / 2Bit
footprint SN460561N (DS101)
pins: 1 C, 2 DP, 3 E, 4 D, 5 G, 6 F, 7 DIG2, 8 DIG1, 9 B, 10 A

## spark arrestor
designator P?  (value not drawn)  (no BOM)
Header, 2-Pin; LatestRevisionDate: 17-Jul-2002; LatestRevisionNote: Re-released for DXP Platform.; Publisher: Altium Limited
footprint J2
signal-integrity model Connector
pins: 1, 2

## SST26VF064B-104V/MN
designator U?
FLASH Memory IC 64Mb (8M x 8) SPI - Quad I/O 104 MHz 8-WDFN (6x8); MF: Microchip; MP: SST26VF064B-104V/MN; SnapEDA_Link: https://www.snapeda.com/parts/SST26VF064B-104V/MN/Microchip+Technology/view-part/?ref=snap; Package: WDFN-8 Microchip; Value: *; Check_prices: https://www.snapeda.com/parts/SST26VF064B-104V/MN/Microchip+Technology/view-part/?ref=eda
footprint SON127P600X800X80-9N
pins: 1 CE# (in), 2 SO/SIO1 (io), 3 WP#/SIO2 (io), 4 VSS (power), 5 SI/SIO0 (io), 6 SCK (in), 7 HOLD/SIO3 (io), 8 VDD (power)
text: SST26VF064B

## STM8S003F3P6
designator U?  (value not drawn)
STM8S 8-bit MCU, Value line, 16-MHz ,8 Kbyte Flash memory, / 128-byte data EEPROM, 10-bit ADC, 3 timers, UART, SPI, I²C; Temperature Range: -x°C to x°C; PartNumber: STM8S003F3P6
footprint TSSOP 20 (Shrink Small Outline; 20 Leads; Body Width 4.4 mm; Pitch 0.65 mm)
pins: 1 UART1_CK/TIM2_CH1/BEEP/(HS)PD4 (power), 2 UART1_TX/AIN5/(HS) PD5 (power), 3 UART1_RX/AIN6/(HS) PD6 (power), 4 NRST (power), 5 OSCIN/PA1 (power), 6 OSCOUT/PA2 (power), 7 VSS (power), 8 VCAP (power), 9 VDD (power), 10 [SPI_NSS] TIM2_CH3/(HS) PA3 (power), 11 PB5(T)/I2C_SDA [TIM1_BKIN] (power), 12 PB4(T)/I2C_SCL [ADC_ETR] (power), 13 PC3(HS)/TIM1_CH3 [TLI] [TIM1_CH1N] (power), 14 PC4(HS)/TIM1_CH4/CLK_CCO/AIN2/[TIM1_CH2N] (power), 15 PC5 (HS)/SPI_SCK [TIM2_CH1] (power), 16 PC6(HS)/SPI_MOSI [TIM1_CH1] (power), 17 PC7(HS)/SPI_MISO [TIM1_CH2] (power), 18 PD1(HS)/SWIM (power), 19 PD2(HS)/AIN3/[TIM2_CH3] (power), 20 PD3 (HS)/AIN4/TIM2_CH2/ADC_ETR (power)

## STM32F030F4P6
designator U?
Value-line ARM -based 32-bit MCU with up to 256-KB Flash, / timers, ADC, communication interfaces, 2.4-3.6 V operation; Temperature Range: -x°C to x°C
footprint TSSOP 20 (Shrink Small Outline; 20 Leads; Body Width 4.4 mm; Pitch 0.65 mm)
pins: 1 BOOT0 (power), 2 OSC_IN/PF0 (power), 3 OSC_OUT/PF1 (power), 4 NRST (power), 5 VDDA (power), 6 PA0 (power), 7 PA1 (power), 8 PA2 (power), 9 PA3 (power), 10 PA4 (power), 11 PA5 (power), 12 PA6 (power), 13 PA7 (power), 14 PB1 (power), 15 VSS (power), 16 VDD (power), 17 PA9 (power), 18 PA10 (power), 19 PA13 (power), 20 PA14 (power)

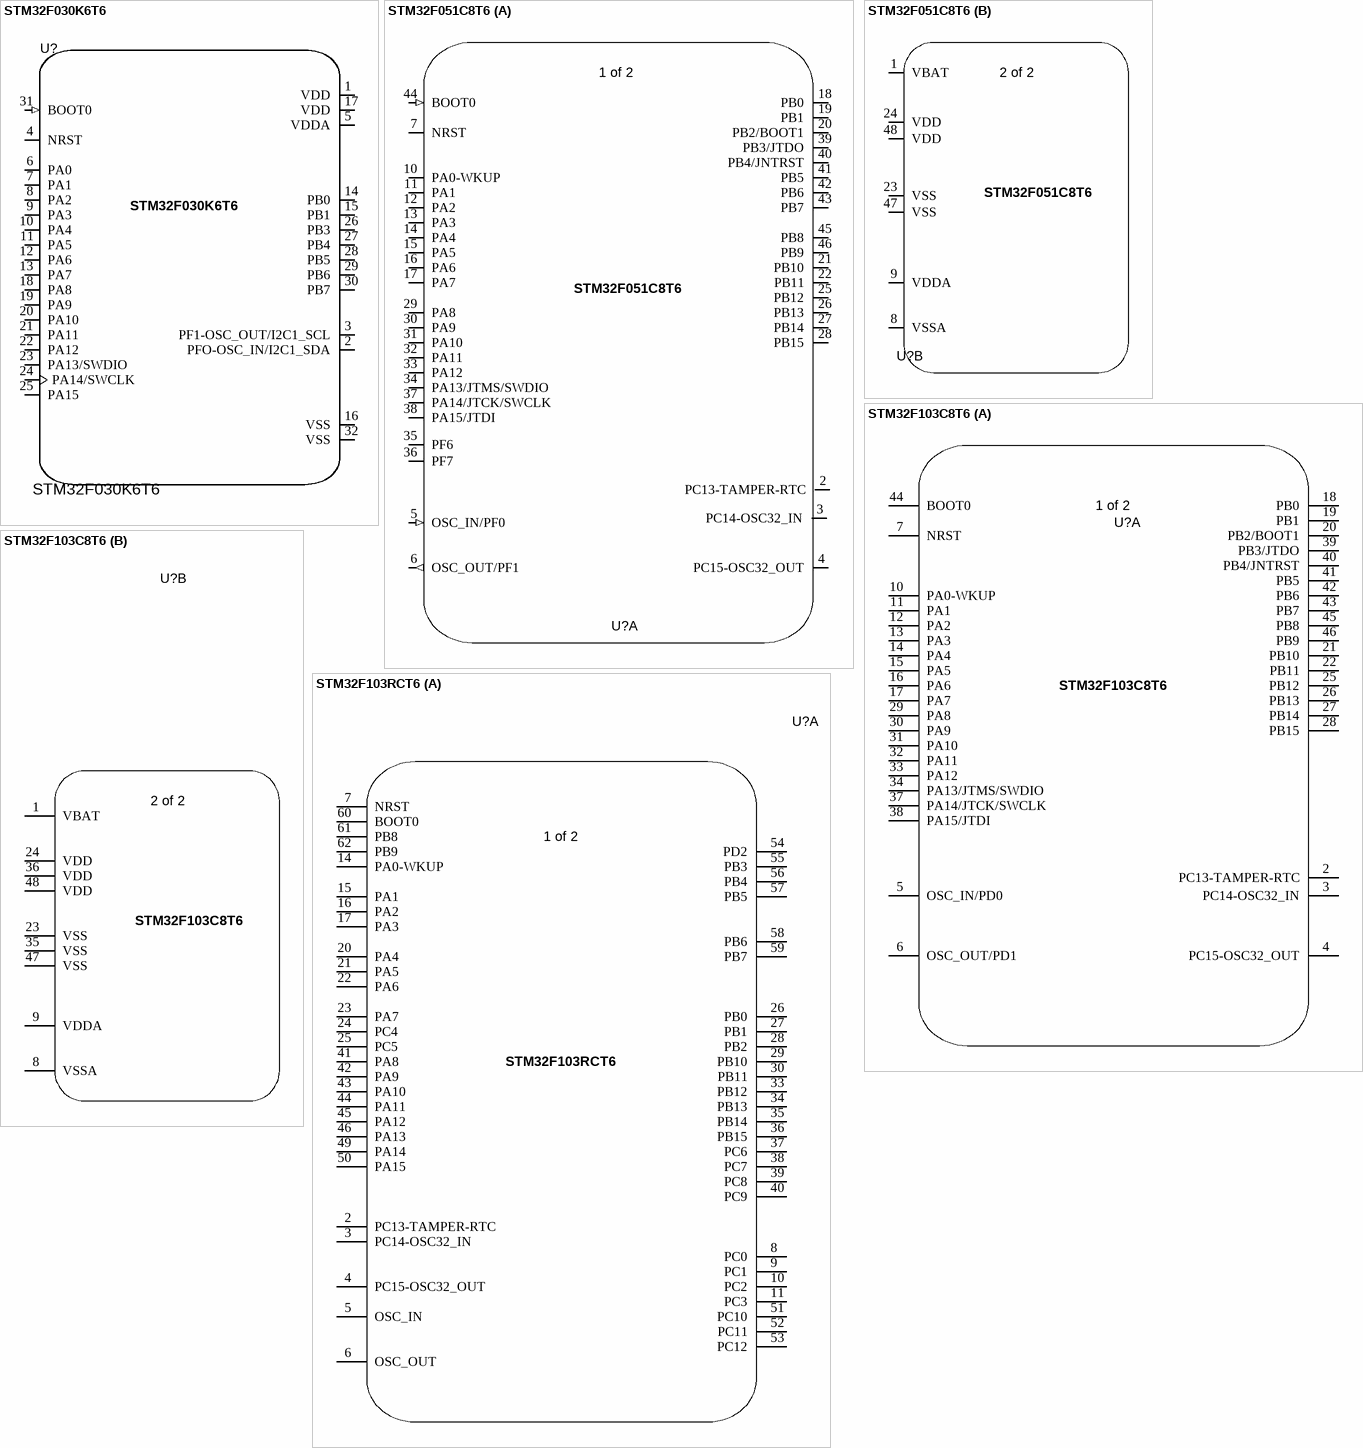
[diagram p7: symbols STM32F030K6T6 to STM32F103RCT6]

## STM32F030K6T6
designator U?
Price: None; MP: STM32F030K6T6; Value: *; Availability: Unavailable; Package: None
footprint QFP80P900X900X160-32N
footprint QFP80P900X900X160-32N
footprint QFP80P900X900X160-32N
footprint QFP80P900X900X160-32N
pins: 1 VDD (power), 2 PFO-OSC_IN/I2C1_SDA (io), 3 PF1-OSC_OUT/I2C1_SCL (io), 4 NRST (io), 5 VDDA (power), 6 PA0 (io), 7 PA1 (io), 8 PA2 (io), 9 PA3 (io), 10 PA4 (io), 11 PA5 (io), 12 PA6 (io), 13 PA7 (io), 14 PB0 (io), 15 PB1 (io), 16 VSS (power), 17 VDD (power), 18 PA8 (io), 19 PA9 (io), 20 PA10 (io), 21 PA11 (io), 22 PA12 (io), 23 PA13/SWDIO (io), 24 PA14/SWCLK (io), 25 PA15 (io), 26 PB3 (io), 27 PB4 (io), 28 PB5 (io), 29 PB6 (io), 30 PB7 (io), 31 BOOT0 (in), 32 VSS (power)

## STM32F051C8T6
designator U?
STM32 ARM-based 32-bit MCU with 64 Kbytes Flash, 48-pin LQFP, Industrial Temperature; Temperature Range: -x°C to x°C
footprint LQFP48_N (Thin QFP, 48-Leads, Body 7x7mm, Pitch 0.5mm, IPC Medium Density)
part A pins: 2 PC13-TAMPER-RTC (io), 3 PC14-OSC32_IN (io), 4 PC15-OSC32_OUT (io), 5 OSC_IN/PF0 (in), 6 OSC_OUT/PF1 (out), 7 NRST (io), 10 PA0-WKUP (io), 11 PA1 (io), 12 PA2 (io), 13 PA3 (io), 14 PA4 (io), 15 PA5 (io), 16 PA6 (io), 17 PA7 (io), 18 PB0 (io), 19 PB1 (io), 20 PB2/BOOT1 (io), 21 PB10 (io), 22 PB11 (io), 25 PB12 (io), 26 PB13 (io), 27 PB14 (io), 28 PB15 (io), 29 PA8 (io), 30 PA9 (io), 31 PA10 (io), 32 PA11 (io), 33 PA12 (io), 34 PA13/JTMS/SWDIO (io), 35 PF6 (power), 36 PF7 (power), 37 PA14/JTCK/SWCLK (io), 38 PA15/JTDI (io), 39 PB3/JTDO (io), 40 PB4/JNTRST (io), 41 PB5 (io), 42 PB6 (io), 43 PB7 (io), 44 BOOT0 (in), 45 PB8 (io), 46 PB9 (io)
part B pins: 1 VBAT (power), 8 VSSA (power), 9 VDDA (power), 23 VSS (power), 24 VDD (power), 47 VSS (power), 48 VDD (power)
part A text: 1 of 2
part B text: 2 of 2

## STM32F103C8T6
designator U?  (value not drawn)
STM32 ARM-based 32-bit MCU with 64 Kbytes Flash, 48-pin LQFP, Industrial Temperature; Temperature Range: -x°C to x°C; PartNumber: STM32F103C8T6
footprint LQFP48_N (Thin QFP, 48-Leads, Body 7x7mm, Pitch 0.5mm, IPC Medium Density)
part A pins: 2 PC13-TAMPER-RTC, 3 PC14-OSC32_IN, 4 PC15-OSC32_OUT, 5 OSC_IN/PD0, 6 OSC_OUT/PD1, 7 NRST, 10 PA0-WKUP, 11 PA1, 12 PA2, 13 PA3, 14 PA4, 15 PA5, 16 PA6, 17 PA7, 18 PB0, 19 PB1, 20 PB2/BOOT1, 21 PB10, 22 PB11, 25 PB12, 26 PB13, 27 PB14, 28 PB15, 29 PA8, 30 PA9, 31 PA10, 32 PA11, 33 PA12, 34 PA13/JTMS/SWDIO, 37 PA14/JTCK/SWCLK, 38 PA15/JTDI, 39 PB3/JTDO, 40 PB4/JNTRST, 41 PB5, 42 PB6, 43 PB7, 44 BOOT0, 45 PB8, 46 PB9
part B pins: 1 VBAT, 8 VSSA, 9 VDDA, 23 VSS, 24 VDD, 35 VSS, 36 VDD, 47 VSS, 48 VDD
part A text: 1 of 2
part B text: 2 of 2

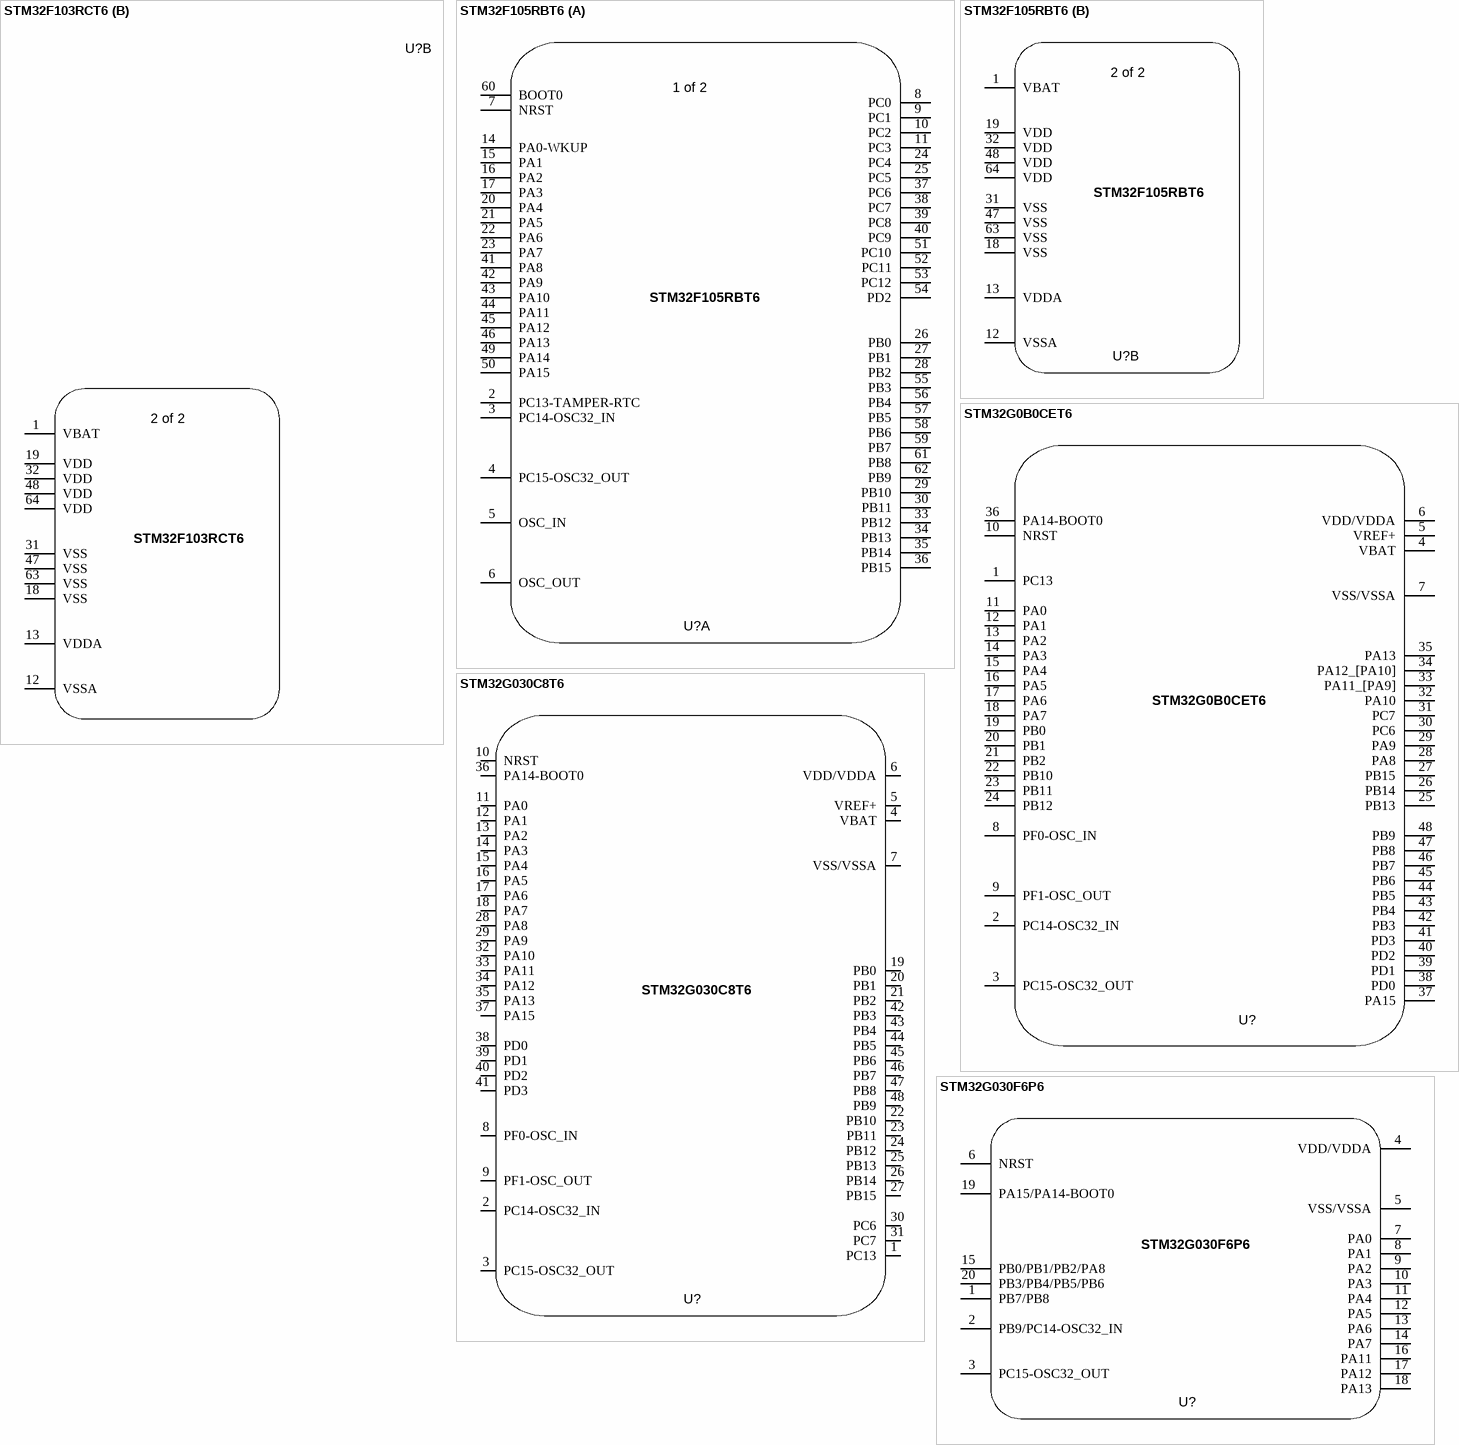
[diagram p8: symbols STM32F103RCT6 to STM32G030F6P6]

## STM32F103RCT6
designator U?, comment STM32f103RCT6  (value not drawn)
STM32 MCU; Temperature Range: -x°C to x°C; PartNumber: STM32f103RCT6
footprint LQFP64-N
part A pins: 2 PC13-TAMPER-RTC, 3 PC14-OSC32_IN, 4 PC15-OSC32_OUT, 5 OSC_IN, 6 OSC_OUT, 7 NRST, 8 PC0, 9 PC1, 10 PC2, 11 PC3, 14 PA0-WKUP, 15 PA1, 16 PA2, 17 PA3, 20 PA4, 21 PA5, 22 PA6, 23 PA7, 24 PC4, 25 PC5, 26 PB0, 27 PB1, 28 PB2, 29 PB10, 30 PB11, 33 PB12, 34 PB13, 35 PB14, 36 PB15, 37 PC6, 38 PC7, 39 PC8, 40 PC9, 41 PA8, 42 PA9, 43 PA10, 44 PA11, 45 PA12, 46 PA13, 49 PA14, 50 PA15, 51 PC10, 52 PC11, 53 PC12, 54 PD2, 55 PB3, 56 PB4, 57 PB5, 58 PB6, 59 PB7, 60 BOOT0, 61 PB8, 62 PB9
part B pins: 1 VBAT, 12 VSSA, 13 VDDA, 18 VSS, 19 VDD, 31 VSS, 32 VDD, 47 VSS, 48 VDD, 63 VSS, 64 VDD
part A text: 1 of 2
part B text: 2 of 2

## STM32F105RBT6
designator U?
STM32 MCU; Temperature Range: -x°C to x°C
footprint LQFP64_N
part A pins: 2 PC13-TAMPER-RTC, 3 PC14-OSC32_IN, 4 PC15-OSC32_OUT, 5 OSC_IN, 6 OSC_OUT, 7 NRST, 8 PC0, 9 PC1, 10 PC2, 11 PC3, 14 PA0-WKUP, 15 PA1, 16 PA2, 17 PA3, 20 PA4, 21 PA5, 22 PA6, 23 PA7, 24 PC4, 25 PC5, 26 PB0, 27 PB1, 28 PB2, 29 PB10, 30 PB11, 33 PB12, 34 PB13, 35 PB14, 36 PB15, 37 PC6, 38 PC7, 39 PC8, 40 PC9, 41 PA8, 42 PA9, 43 PA10, 44 PA11, 45 PA12, 46 PA13, 49 PA14, 50 PA15, 51 PC10, 52 PC11, 53 PC12, 54 PD2, 55 PB3, 56 PB4, 57 PB5, 58 PB6, 59 PB7, 60 BOOT0, 61 PB8, 62 PB9
part B pins: 1 VBAT, 12 VSSA, 13 VDDA, 18 VSS, 19 VDD, 31 VSS, 32 VDD, 47 VSS, 48 VDD, 63 VSS, 64 VDD
part A text: 1 of 2
part B text: 2 of 2

## STM32G0B0CET6
designator U?  (value not drawn)
MCU 32-Bit Arm Cortex-M0+ RISC 512KB KB Flash 2V to 3.6V 48-Pin LQFP Tray - Tape and Reel; Temperature Range: -x°C to x°C; PartNumber: STM32G0B0CET6
footprint LQFP48_N
pins: 1 PC13, 2 PC14-OSC32_IN, 3 PC15-OSC32_OUT, 4 VBAT, 5 VREF+, 6 VDD/VDDA, 7 VSS/VSSA, 8 PF0-OSC_IN, 9 PF1-OSC_OUT, 10 NRST, 11 PA0, 12 PA1, 13 PA2, 14 PA3, 15 PA4, 16 PA5, 17 PA6, 18 PA7, 19 PB0, 20 PB1, 21 PB2, 22 PB10, 23 PB11, 24 PB12, 25 PB13, 26 PB14, 27 PB15, 28 PA8, 29 PA9, 30 PC6, 31 PC7, 32 PA10, 33 PA11_[PA9], 34 PA12_[PA10], 35 PA13, 36 PA14-BOOT0, 37 PA15, 38 PD0, 39 PD1, 40 PD2, 41 PD3, 42 PB3, 43 PB4, 44 PB5, 45 PB6, 46 PB7, 47 PB8, 48 PB9

## STM32G030C8T6
designator U?  (value not drawn)
STM32 MCU; Temperature Range: -x°C to x°C; PartNumber: STM32G030C8T6
footprint LQFP48_N
pins: 1 PC13, 2 PC14-OSC32_IN, 3 PC15-OSC32_OUT, 4 VBAT, 5 VREF+, 6 VDD/VDDA, 7 VSS/VSSA, 8 PF0-OSC_IN, 9 PF1-OSC_OUT, 10 NRST, 11 PA0, 12 PA1, 13 PA2, 14 PA3, 15 PA4, 16 PA5, 17 PA6, 18 PA7, 19 PB0, 20 PB1, 21 PB2, 22 PB10, 23 PB11, 24 PB12, 25 PB13, 26 PB14, 27 PB15, 28 PA8, 29 PA9, 30 PC6, 31 PC7, 32 PA10, 33 PA11, 34 PA12, 35 PA13, 36 PA14-BOOT0, 37 PA15, 38 PD0, 39 PD1, 40 PD2, 41 PD3, 42 PB3, 43 PB4, 44 PB5, 45 PB6, 46 PB7, 47 PB8, 48 PB9

## STM32G030F6P6
designator U?
STM32G030F6P6; Temperature Range: -x°C to x°C
footprint TSSOP 20 (Shrink Small Outline; 20 Leads; Body Width 4.4 mm; Pitch 0.65 mm)
pins: 1 PB7/PB8, 2 PB9/PC14-OSC32_IN, 3 PC15-OSC32_OUT, 4 VDD/VDDA, 5 VSS/VSSA, 6 NRST, 7 PA0, 8 PA1, 9 PA2, 10 PA3, 11 PA4, 12 PA5, 13 PA6, 14 PA7, 15 PB0/PB1/PB2/PA8, 16 PA11, 17 PA12, 18 PA13, 19 PA15/PA14-BOOT0, 20 PB3/PB4/PB5/PB6

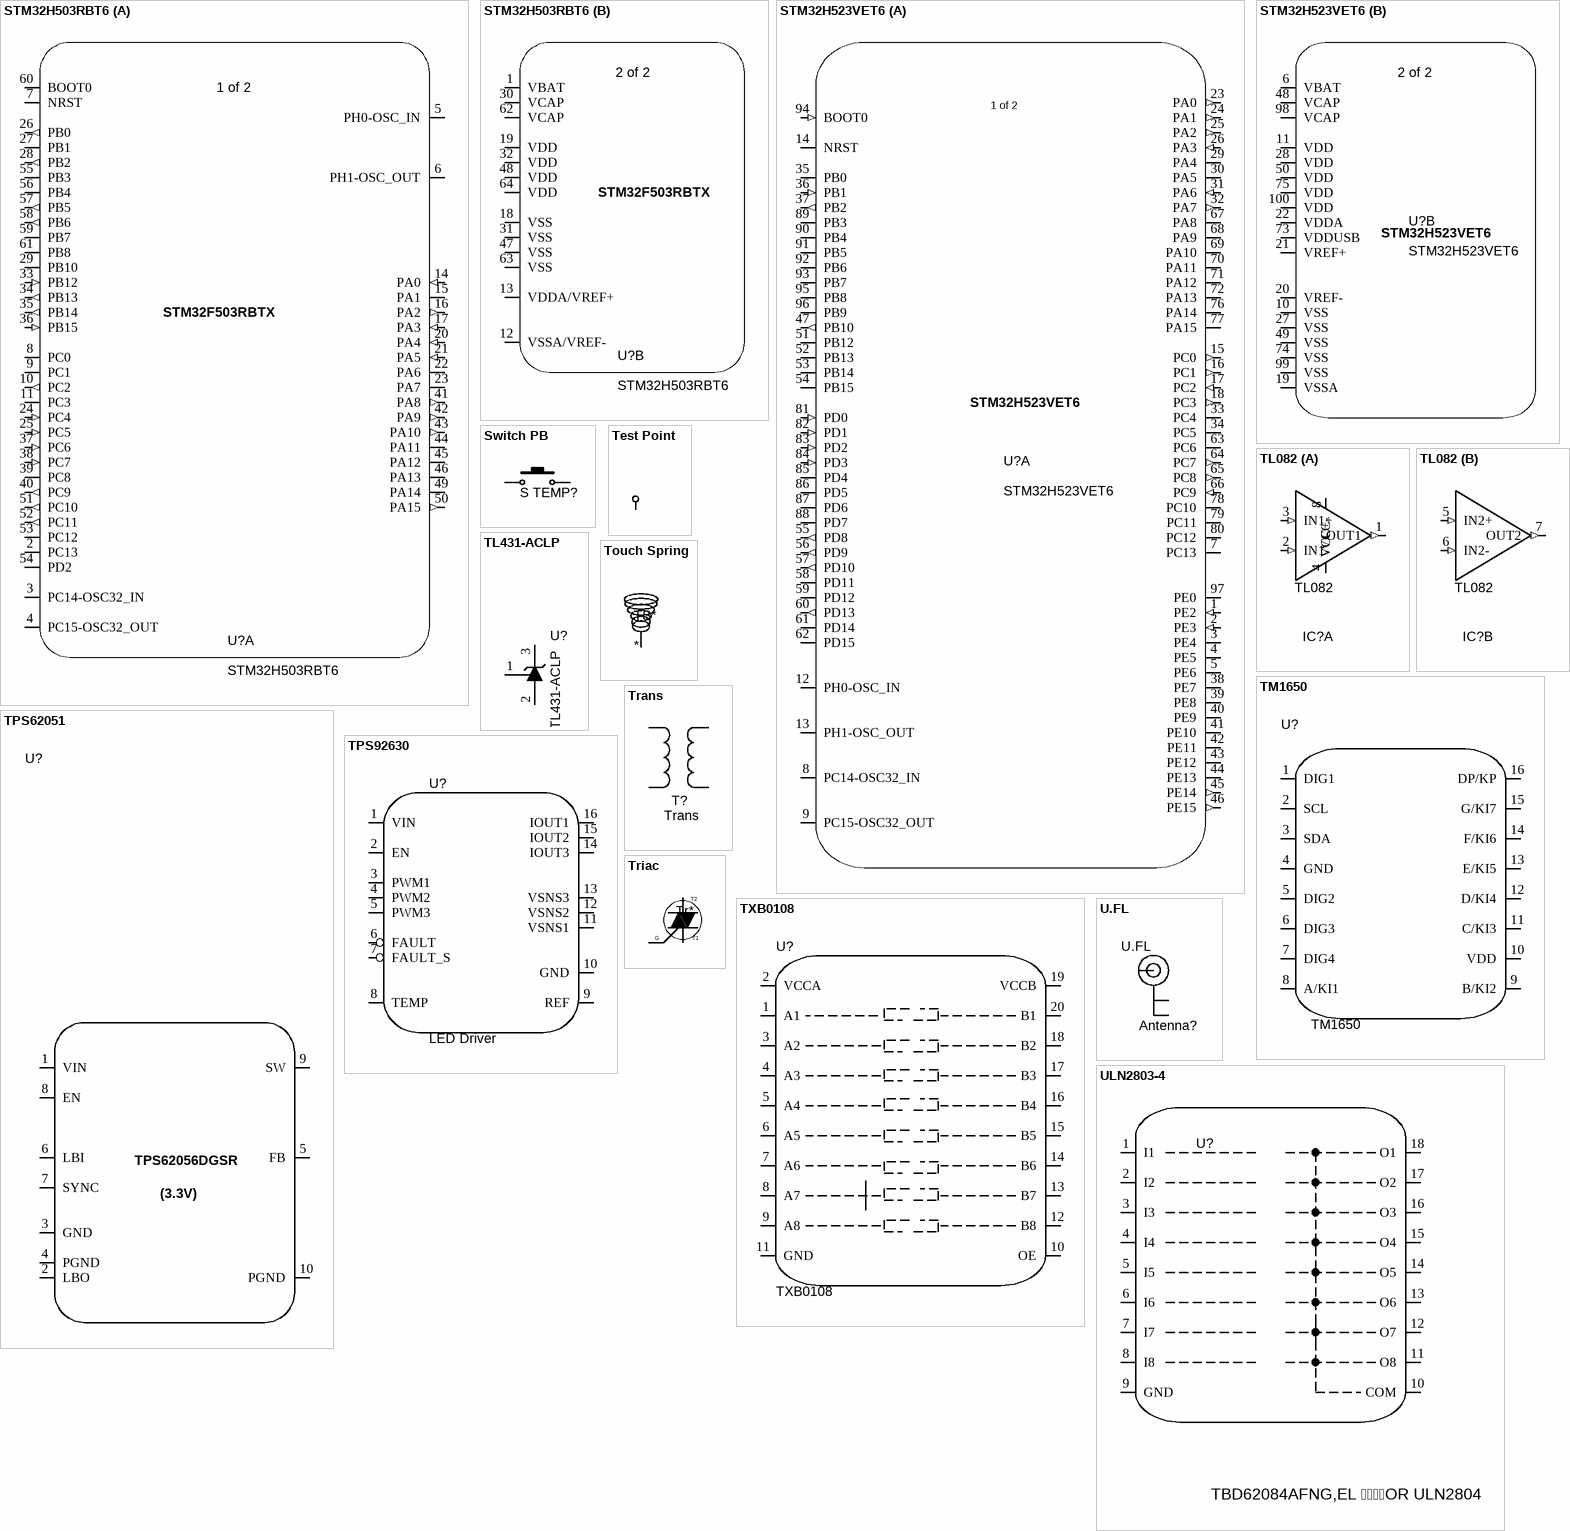
[diagram p9: symbols STM32H503RBT6 to ULN2803-4]

## STM32H503RBT6
designator U?
High-performance, Arm Cortex-M33, MCU with 128-Kbyte Flash, 32-Kbyte RAM, 250 MHz CPU; Manufacturer_Name: STMicroelectronics; Copyright: Copyright (C) 2025 Ultra Librarian. All rights reserved.; Manufacturer_Part_Number: STM32H503RBT6; RefDes: RefDes; Type: Type
footprint LQFP64-10x10mm_STM
part A pins: 2 PC13 (io), 3 PC14-OSC32_IN (io), 4 PC15-OSC32_OUT (io), 5 PH0-OSC_IN (io), 6 PH1-OSC_OUT (io), 7 NRST (io), 8 PC0 (io), 9 PC1 (io), 10 PC2 (out), 11 PC3 (io), 14 PA0 (in), 15 PA1 (io), 16 PA2 (out), 17 PA3 (in), 20 PA4 (in), 21 PA5 (in), 22 PA6 (io), 23 PA7 (io), 24 PC4 (in), 25 PC5 (in), 26 PB0 (out), 27 PB1 (io), 28 PB2 (out), 29 PB10 (io), 33 PB12 (in), 34 PB13 (out), 35 PB14 (out), 36 PB15 (in), 37 PC6 (in), 38 PC7 (in), 39 PC8 (io), 40 PC9 (out), 41 PA8 (out), 42 PA9 (out), 43 PA10 (out), 44 PA11 (io), 45 PA12 (io), 46 PA13 (io), 49 PA14 (io), 50 PA15 (out), 51 PC10 (out), 52 PC11 (out), 53 PC12 (io), 54 PD2 (io), 55 PB3 (io), 56 PB4 (io), 57 PB5 (out), 58 PB6 (out), 59 PB7 (io), 60 BOOT0 (io), 61 PB8 (io)
part B pins: 1 VBAT (power), 12 VSSA/VREF- (power), 13 VDDA/VREF+ (power), 18 VSS (power), 19 VDD (power), 30 VCAP (power), 31 VSS (power), 32 VDD (power), 47 VSS (power), 48 VDD (power), 62 VCAP (power), 63 VSS (power), 64 VDD (power)
part A text: 1 of 2; STM32F503RBTX
part B text: 2 of 2; STM32F503RBTX

## STM32H523VET6
designator U?
High-performance, Arm Cortex-M33, MCU with 512-Kbyte Flash, 272-Kbyte RAM, 250 MHz CPU; Manufacturer_Name: STMicroelectronics; Copyright: Copyright (C) 2025 Ultra Librarian. All rights reserved.; Manufacturer_Part_Number: STM32H523VET6; Datasheet: https://www.st.com/resource/en/datasheet/stm32h523ce.pdf; RefDes: RefDes; Type: Type
footprint LQFP-100
footprint LQFP-100-L
footprint LQFP-100-M
part A pins: 1 PE2 (in), 2 PE3 (in), 3 PE4 (io), 4 PE5 (io), 5 PE6 (io), 7 PC13 (io), 8 PC14-OSC32_IN (io), 9 PC15-OSC32_OUT (io), 12 PH0-OSC_IN (io), 13 PH1-OSC_OUT (io), 14 NRST (io), 15 PC0 (out), 16 PC1 (out), 17 PC2 (in), 18 PC3 (out), 23 PA0 (out), 24 PA1 (out), 25 PA2 (out), 26 PA3 (in), 29 PA4 (io), 30 PA5 (io), 31 PA6 (in), 32 PA7 (out), 33 PC4 (io), 34 PC5 (io), 35 PB0 (io), 36 PB1 (in), 37 PB2 (out), 38 PE7 (io), 39 PE8 (io), 40 PE9 (io), 41 PE10 (io), 42 PE11 (io), 43 PE12 (io), 44 PE13 (io), 45 PE14 (out), 46 PE15 (out), 47 PB10 (out), 51 PB12 (io), 52 PB13 (io), 53 PB14 (io), 54 PB15 (io), 55 PD8 (out), 56 PD9 (out), 57 PD10 (out), 58 PD11 (io), 59 PD12 (io), 60 PD13 (out), 61 PD14 (io), 62 PD15 (io), 63 PC6 (io), 64 PC7 (out), 65 PC8 (out), 66 PC9 (in), 67 PA8 (io), 68 PA9 (io), 69 PA10 (io), 70 PA11 (io), 71 PA12 (io), 72 PA13 (io), 76 PA14 (io), 77 PA15 (io), 78 PC10 (io), 79 PC11 (io), 80 PC12 (io), 81 PD0 (in), 82 PD1 (in), 83 PD2 (in), 84 PD3 (in), 85 PD4 (io), 86 PD5 (io), 87 PD6 (io), 88 PD7 (io), 89 PB3 (io), 90 PB4 (io), 91 PB5 (io), 92 PB6 (io), 93 PB7 (io), 94 BOOT0 (in), 95 PB8 (io), 96 PB9 (io), 97 PE0 (io)
part B pins: 6 VBAT (power), 10 VSS (power), 11 VDD (power), 19 VSSA (power), 20 VREF- (power), 21 VREF+ (power), 22 VDDA (power), 27 VSS (power), 28 VDD (power), 48 VCAP (power), 49 VSS (power), 50 VDD (power), 73 VDDUSB (power), 74 VSS (power), 75 VDD (power), 98 VCAP (power), 99 VSS (power), 100 VDD (power)
part A text: 1 of 2
part B text: 2 of 2

## Switch PB
designator S TEMP?  (value not drawn)
Push Button Switch
footprint Switch - Push to On
footprint SW-PB
pins: 1, 2

## Test Point
designator TP?
footprint Test Point
footprint Test Point Small
footprint Test Point SMD
pins: 1 Test

## TL082
designator IC?
Dual JFET Input Operational Amplifier
footprint SOIC127P600X175-8N (Footprint not found)
part A pins: 1 OUT1 (out), 2 IN1- (in), 3 IN1+ (in), 4 VCC- (power), 8 VCC+ (power)
part B pins: 5 IN2+ (in), 6 IN2- (in), 7 OUT2 (out)

## TL431-ACLP
designator U?
Programmable Precision Reference Voltage; PartNumber: TL431-ACLP; Temperature Range: -x°C to x°C
footprint TO-92
footprint TO-92 BENT (DESIGNER :ABBAS BASEREH)
footprint TO-92 CF (DESIGNER :ABBAS BASEREH)
footprint TO-92 STR (DESIGNER :ABBAS BASEREH)
footprint SOT23_N (SOT23, 3-Leads, Body 2.9x1.3mm, Pitch 0.95mm, Lead Span 2.3mm - Reverse Pinning, IPC Medium Density)
pins: 1 REF, 2 A, 3 K

## TM1650
designator U?
TM1650<P> LED Driver and keyboard; MF: tm; Package: None; Availability: Not in stock; Value: *; MP: TM1650; Check_prices: https://www.snapeda.com/parts/TM1650/TMMH/view-part/?ref=eda; Price: None; SnapEDA_Link: https://www.snapeda.com/parts/TM1650/TMMH/view-part/?ref=snap
footprint SOP-16
footprint SOP-16
pins: 1 DIG1 (io), 2 SCL (io), 3 SDA (io), 4 GND (io), 5 DIG2 (io), 6 DIG3 (io), 7 DIG4 (io), 8 A/KI1 (io), 9 B/KI2 (io), 10 VDD (io), 11 C/KI3 (io), 12 D/KI4 (io), 13 E/KI5 (io), 14 F/KI6 (io), 15 G/KI7 (io), 16 DP/KP (io)

## Touch Spring
designator TS*
footprint Toch Spring 15X20(2_HOAL)
footprint Touch_10
footprint Toch Spring 15X20
pins: 1

## TPS62051
designator U?
TPS6205x 800-mA Synchronous Step-Down Converter
footprint IC_XTR111AIDGQR
pins: 1 VIN, 2 LBO, 3 GND, 4 PGND, 5 FB, 6 LBI, 7 SYNC, 8 EN, 9 SW, 10 PGND
text: TPS62056DGSR; (3.3V)

## TPS92630
designator U?, comment LED Driver
pins: 1 VIN, 2 EN, 3 PWM1, 4 PWM2, 5 PWM3, 6 FAULT, 7 FAULT_S, 8 TEMP, 9 REF, 10 GND, 11 VSNS1, 12 VSNS2, 13 VSNS3, 14 IOUT3, 15 IOUT2, 16 IOUT1

## Trans
designator T?
Transformer; Published: 24-Mar-1999; LatestRevisionDate: 08-Jul-2005; LatestRevisionNote: Mech Layer 1 removed.; PackageReference: TRANS; Publisher: Altium Limited; PackageDescription: Transformer; 4 Leads
footprint TRANS (Transformer; 4 Leads)
simulation model TRANSFORMER (Transformer)
pins: 1, 2, 3, 4

## Triac
designator Tr*  (value not drawn)
BT13X
footprint TO-220 AB S (Epoxy meets UL94, V0-Design:Abbas Basereh)
pins: 1 T1, 2 T2, 3 G

## TXB0108
designator U?  (graphical)
Voltage Level Translator Bidirectional 1 Circuit 8 Channel 100Mbps 20-BGA Microstar Junior (2.5x3.0); MF: Texas Instruments; Purchase-URL: https://pricing.snapeda.com/search/part/TXB0108/?ref=eda; Package: None; MP: TXB0108; Value: *; SnapEDA_Link: https://www.snapeda.com/parts/TXB0108/Texas+Instruments/view-part/?ref=snap; Availability: In Stock; Price: None; Check_prices: https://www.snapeda.com/parts/TXB0108/Texas+Instruments/view-part/?ref=eda
footprint SOP65P640X120-20N
pins: 1 A1 (io), 2 VCCA (io), 3 A2 (io), 4 A3 (io), 5 A4 (io), 6 A5 (io), 7 A6 (io), 8 A7 (io), 9 A8 (io), 10 OE (io), 11 GND (io), 12 B8 (io), 13 B7 (io), 14 B6 (io), 15 B5 (io), 16 B4 (io), 17 B3 (io), 18 B2 (io), 19 VCCB (io), 20 B1 (io)

## U.FL
designator Antenna?
U.FL Antenna Connector; SymbolName_1: U.FL
footprint TE_CONMHF1-SMD-T
pins: 1 SIGNAL (io), 3 GND (power), 4 GND (power)

## ULN2803-4
designator U?, comment TBD62084AFNG,EL OR ULN2804
ULN2803 ULN2804 / TBD62084AFNG,EL; MF: Toshiba Semiconductor; MP: TBD62083AFNG,EL; Purchase-URL: https://pricing.snapeda.com/search/part/TBD62083AFNG,EL/?ref=eda; Price: None; Package: LSSOP-18 Toshiba Semiconductor; SnapEDA_Link: https://www.snapeda.com/parts/TBD62083AFNG,EL/Toshiba+Semiconductor+and+Storage/view-part/?ref=snap; Availability: In Stock; Check_prices: https://www.snapeda.com/parts/TBD62083AFNG,EL/Toshiba+Semiconductor+and+Storage/view-part/?ref=eda
footprint SOIC127P1030X245-18N
pins: 1 I1 (io), 2 I2 (io), 3 I3 (io), 4 I4 (io), 5 I5 (io), 6 I6 (io), 7 I7 (io), 8 I8 (io), 9 GND (io), 10 COM (io), 11 O8 (io), 12 O7 (io), 13 O6 (io), 14 O5 (io), 15 O4 (io), 16 O3 (io), 17 O2 (io), 18 O1 (io)

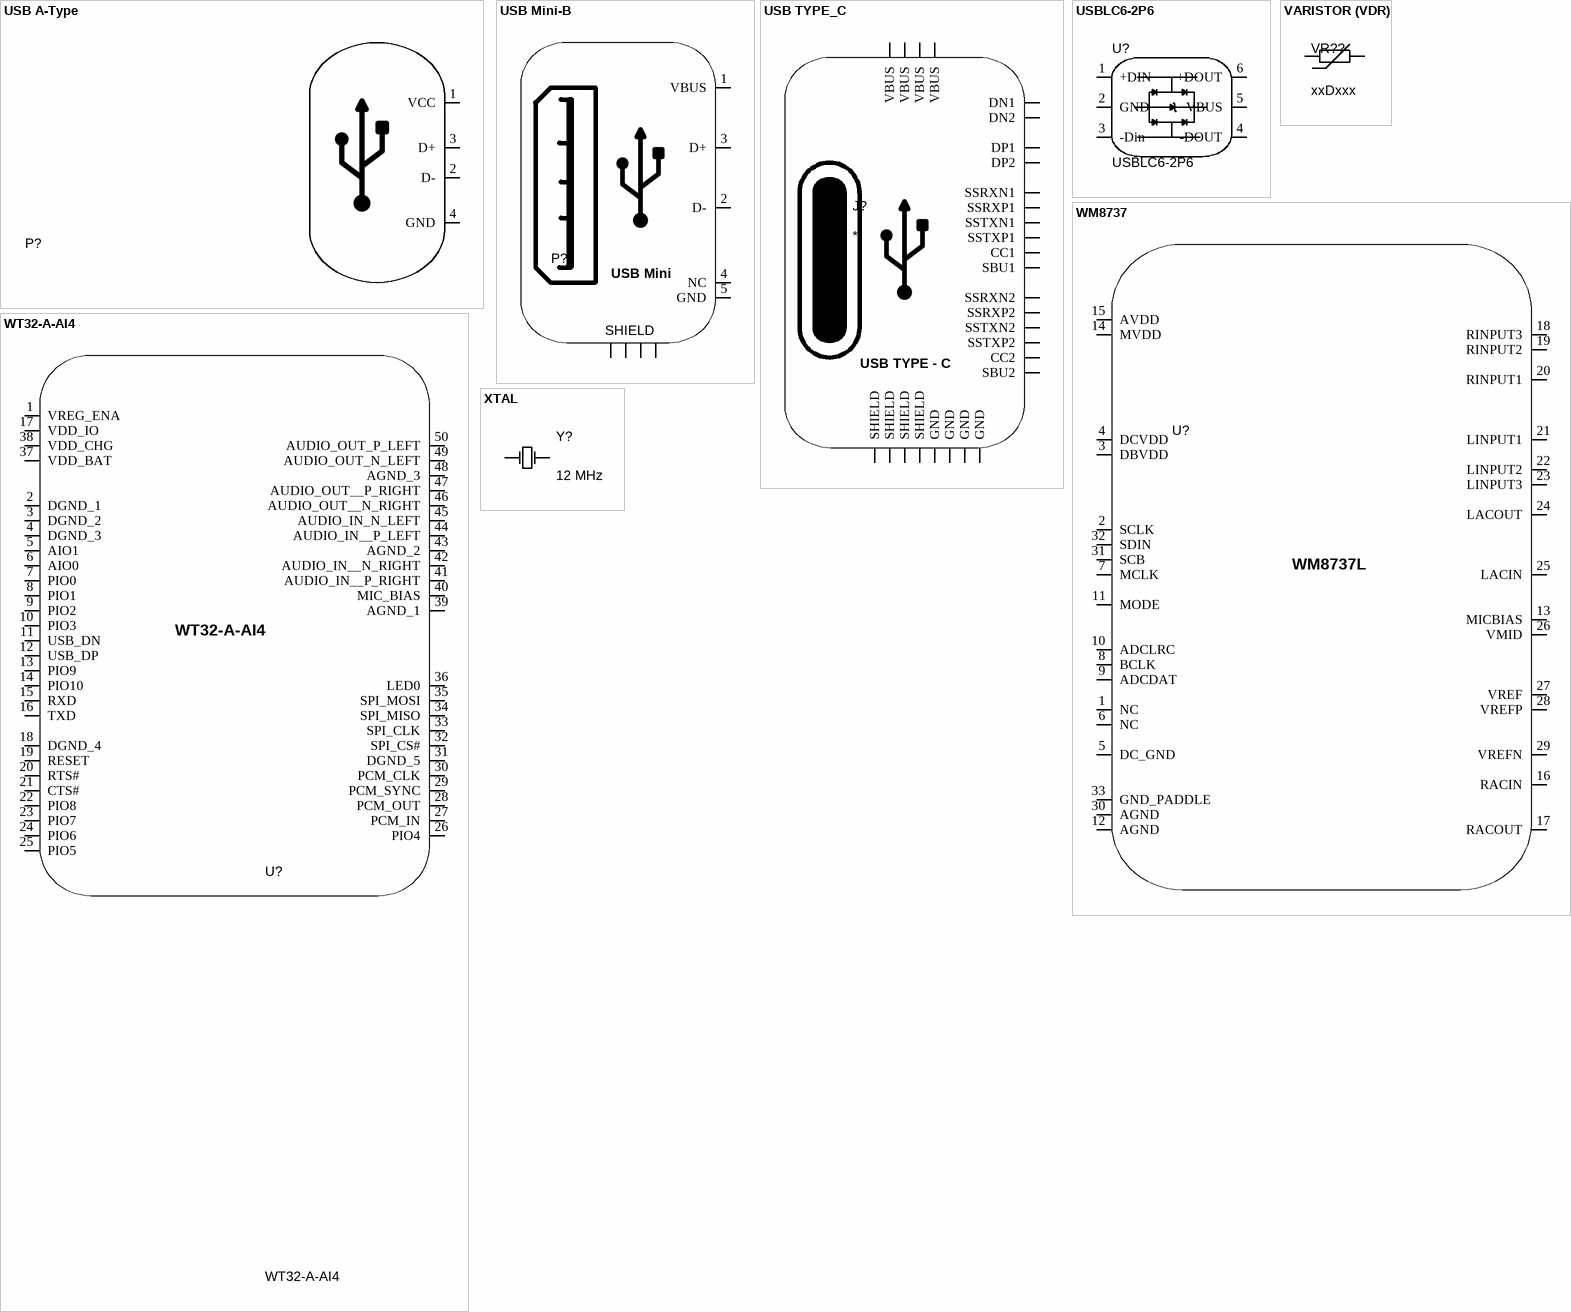
[diagram p10: symbols USB A-Type to XTAL]

## USB A-Type
designator P?, comment USB Connector  (value not drawn)
USB Connector-A Type
footprint USB2.5-2V4A (Connector; USB1.1, Type A, Thru-Hole; 4 Position; Vertical)
footprint USB2.5-2H4C (Connector; USB1.1, Type A, Thru-Hole; 4 Position; Right Angle)
footprint USB2.5-4H8B (Connector; USB1.1, Type A, Thru-Hole; 4x4 Position; Right Angle)
footprint USB A TYPE Right Angle (Connector; USB1.1, Type A, SM; 4 Position; Right Angle DESIGNER ABBAS BASEREH)
footprint USB2.0-4H4 (Connector; USB1.1, Type A, Thru-Hole; 4 Position; Right Angle DESIGNER ABBAS BASEREH)
footprint USB/SM2.5-4H4 (Connector; USB1.1, Type A, SM; 4 Position; Right Angle DESIGNER ABBAS BASEREH)
footprint USB/SM2.5-4H4A (Connector; USB1.1, Type A, SM; 4 Position; Right Angle)
pins: 1 VCC (power), 2 D- (io), 3 D+ (io), 4 GND (power)

## USB Mini-B
designator P?  (value not drawn)
1A USB 2.0 Horizontal attachment 5P Female Mini-B SMD USB Connectors
footprint USB_MINI_B5_CABLE (CONN, USB MINI B, 5PIN, RIGHT ANGLE, SMD)
footprint USB_MINI_B5_SMD (CONN, USB MINI B, 5PIN, RIGHT ANGLE, SMD)
footprint USB_MINI_B5_THD (CONN, USB MINI B, 5PIN, RIGHT ANGLE, THD)
footprint Mini USB
pins: 1 VBUS (power), 2 D- (io), 3 D+ (io), 4 NC (power), 5 GND (power), SH1 SHIELD (power), SH2 SHIELD (power), SH3 SHIELD (power), SH4 SHIELD (power)
text: USB Mini

## USB TYPE_C
designator J?
Part Number : UJ31-CH-G2-SMT-TR / Type C, USB 3.2 Gen 2, 10 Gbps, 20 Vdc, 5 A, Right Angle, Surface Mount, Black Insulator, USB Receptacle; MF: Same Sky; SnapEDA_Link: https://www.snapeda.com/parts/UJ31-CH-G2-SMT-TR/Same+Sky/view-part/?ref=snap; Package: None; Value: *; MP: UJ31-CH-G2-SMT-TR; Check_prices: https://www.snapeda.com/parts/UJ31-CH-G2-SMT-TR/Same+Sky/view-part/?ref=eda
footprint CUI_UJ31-CH-G2-SMT-TR
pins: A1 GND (power), A2 SSTXP1 (io), A3 SSTXN1 (io), A4 VBUS (power), A5 CC1 (io), A6 DP1 (io), A7 DN1 (io), A8 SBU1 (io), A9 VBUS (power), A10 SSRXN2 (io), A11 SSRXP2 (io), A12 GND (power), B1 GND (power), B2 SSTXP2 (io), B3 SSTXN2 (io), B4 VBUS (power), B5 CC2 (io), B6 DP2 (io), B7 DN2 (io), B8 SBU2 (io), B9 VBUS (power), B10 SSRXN1 (io), B11 SSRXP1 (io), B12 GND (power), SH1 SHIELD (power), SH2 SHIELD (power), SH3 SHIELD (power), SH4 SHIELD (power)
text: USB TYPE - C

## USBLC6-2P6
designator U?
17V Clamp 5A _8/20Âµs_ Ipp Tvs Diode Surface Mount SOT-666; MF: STMicroelectronics; Value: *; MP: USBLC6-2P6; SnapEDA_Link: https://www.snapeda.com/parts/USBLC6-2P6/STMicroelectronics/view-part/106846/?ref=snap; Availability: Unavailable; Price: None; Package: SOT-563 STMicroelectronics
footprint SOT50P160X60-6N
pins: 1 +DIN (io), 2 GND (power), 3 -Din (io), 4 -DOUT (io), 5 VBUS (power), 6 +DOUT (io)

## VARISTOR (VDR)
designator VR??, comment xxDxxx
VARISTORS; Manufacturer: china-canada-philipina; Designer: M Khosravi; Models: MOV-VDR-COV; Data: 2017-1-5; Link: digikey.com; VALUE: xxDxxx; PUBLISHER: M Khosravi
footprint 05D XXX (MOV-05DxxxK Metal Oxide Varistors (MOVs) are 5 mm-Design:Abbas Basereh)
footprint 07D XXX (MOV-07DxxxK Metal Oxide Varistors (MOVs) are 7 mm-Design:Abbas Basereh)
footprint 10D XXX (MOV-10DxxxK Metal Oxide Varistors (MOVs) are 10 mm-Design:Abbas Basereh)
footprint 14D XXX (MOV-14DxxxK Metal Oxide Varistors (MOVs) are 14 mm-Design:Abbas Basereh)
footprint 20D XXX (MOV-20DxxxK Metal Oxide Varistors (MOVs) are 20 mm-Design:Abbas Basereh)
footprint 23D XXX (MOV-23DxxxK Metal Oxide Varistors (MOVs) are 23 mm-Design:Abbas Basereh)
pins: 1, 2

## WM8737
designator U?
STEREO ADC WITH MICROPHONE PREAMPLIFIER; ComponentLink1Description: Datasheet; ComponentLink1URL: https://www.alldatasheet.com/datasheet-pdf/download/90467/WOLFSON/WM8737.html
footprint QFN65P600X600X90-33N
pins: 1 NC, 2 SCLK, 3 DBVDD, 4 DCVDD, 5 DC_GND, 6 NC, 7 MCLK, 8 BCLK, 9 ADCDAT, 10 ADCLRC, 11 MODE, 12 AGND, 13 MICBIAS, 14 MVDD, 15 AVDD, 16 RACIN, 17 RACOUT, 18 RINPUT3, 19 RINPUT2, 20 RINPUT1, 21 LINPUT1, 22 LINPUT2, 23 LINPUT3, 24 LACOUT, 25 LACIN, 26 VMID, 27 VREF, 28 VREFP, 29 VREFN, 30 AGND, 31 SCB, 32 SDIN, 33 GND_PADDLE
text: WM8737L

## WT32-A-AI4
designator U?
Bluetooth Module - Audio transportation  and codec; Manufacturer_Name: Silicon Labs; Datasheet Link: https://componentsearchengine.com/Datasheets/1/WT32-A-AI4.pdf; Height: 2.6mm; Manufacturer_Part_Number: WT32-A-AI4; Mouser Part Number: 603-WT32-A-AI4; Mouser Price/Stock: https://www.mouser.com/Search/Refine.aspx?Keyword=603-WT32-A-AI4; Arrow Part Number: WT32-A-AI4; Arrow Price/Stock: https://www.arrow.com/en/products/wt32-a-ai4/silicon-labs
footprint WT32AAI4
pins: 1 VREG_ENA, 2 DGND_1, 3 DGND_2, 4 DGND_3, 5 AIO1, 6 AIO0, 7 PIO0, 8 PIO1, 9 PIO2, 10 PIO3, 11 USB_DN, 12 USB_DP, 13 PIO9, 14 PIO10, 15 RXD, 16 TXD, 17 VDD_IO, 18 DGND_4, 19 RESET, 20 RTS#, 21 CTS#, 22 PIO8, 23 PIO7, 24 PIO6, 25 PIO5, 26 PIO4, 27 PCM_IN, 28 PCM_OUT, 29 PCM_SYNC, 30 PCM_CLK, 31 DGND_5, 32 SPI_CS#, 33 SPI_CLK, 34 SPI_MISO, 35 SPI_MOSI, 36 LED0, 37 VDD_BAT, 38 VDD_CHG, 39 AGND_1, 40 MIC_BIAS, 41 AUDIO_IN__P_RIGHT, 42 AUDIO_IN__N_RIGHT, 43 AGND_2, 44 AUDIO_IN__P_LEFT, 45 AUDIO_IN_N_LEFT, 46 AUDIO_OUT__N_RIGHT, 47 AUDIO_OUT__P_RIGHT, 48 AGND_3, 49 AUDIO_OUT_N_LEFT, 50 AUDIO_OUT_P_LEFT

## XTAL
designator Y?, comment 12 MHz
XTAL Crystal; Designer: M Khosravi; Design Date: 2017-1-3; ComponentLink1Description: Datasheet; ComponentLink2Description: Reference; Mounting Technology: Surface Mount\Through-Hole; Value: 12 MHz; Status: Unreleased
footprint CRYSTAL Small (DESIGNER ABBAS BASEREH)
footprint Crystal SMD (DESIGNER ABBAS BASEREH)
footprint XTAL 16MHZ (Crystal Oscillator)
footprint XTAL L (Crystal Oscillator)
footprint XTAL M (Crystal Oscillator)
footprint XTAL RTC (Crystal Oscillator)
pins: 1 OSC1, 2 OSC2